# Altium schematic symbol library MCU_ST_STM32F3.SchLib: 126 symbols (part 1 of 3)
Pins are listed as number, name and electrical type; pins without a type are passive.

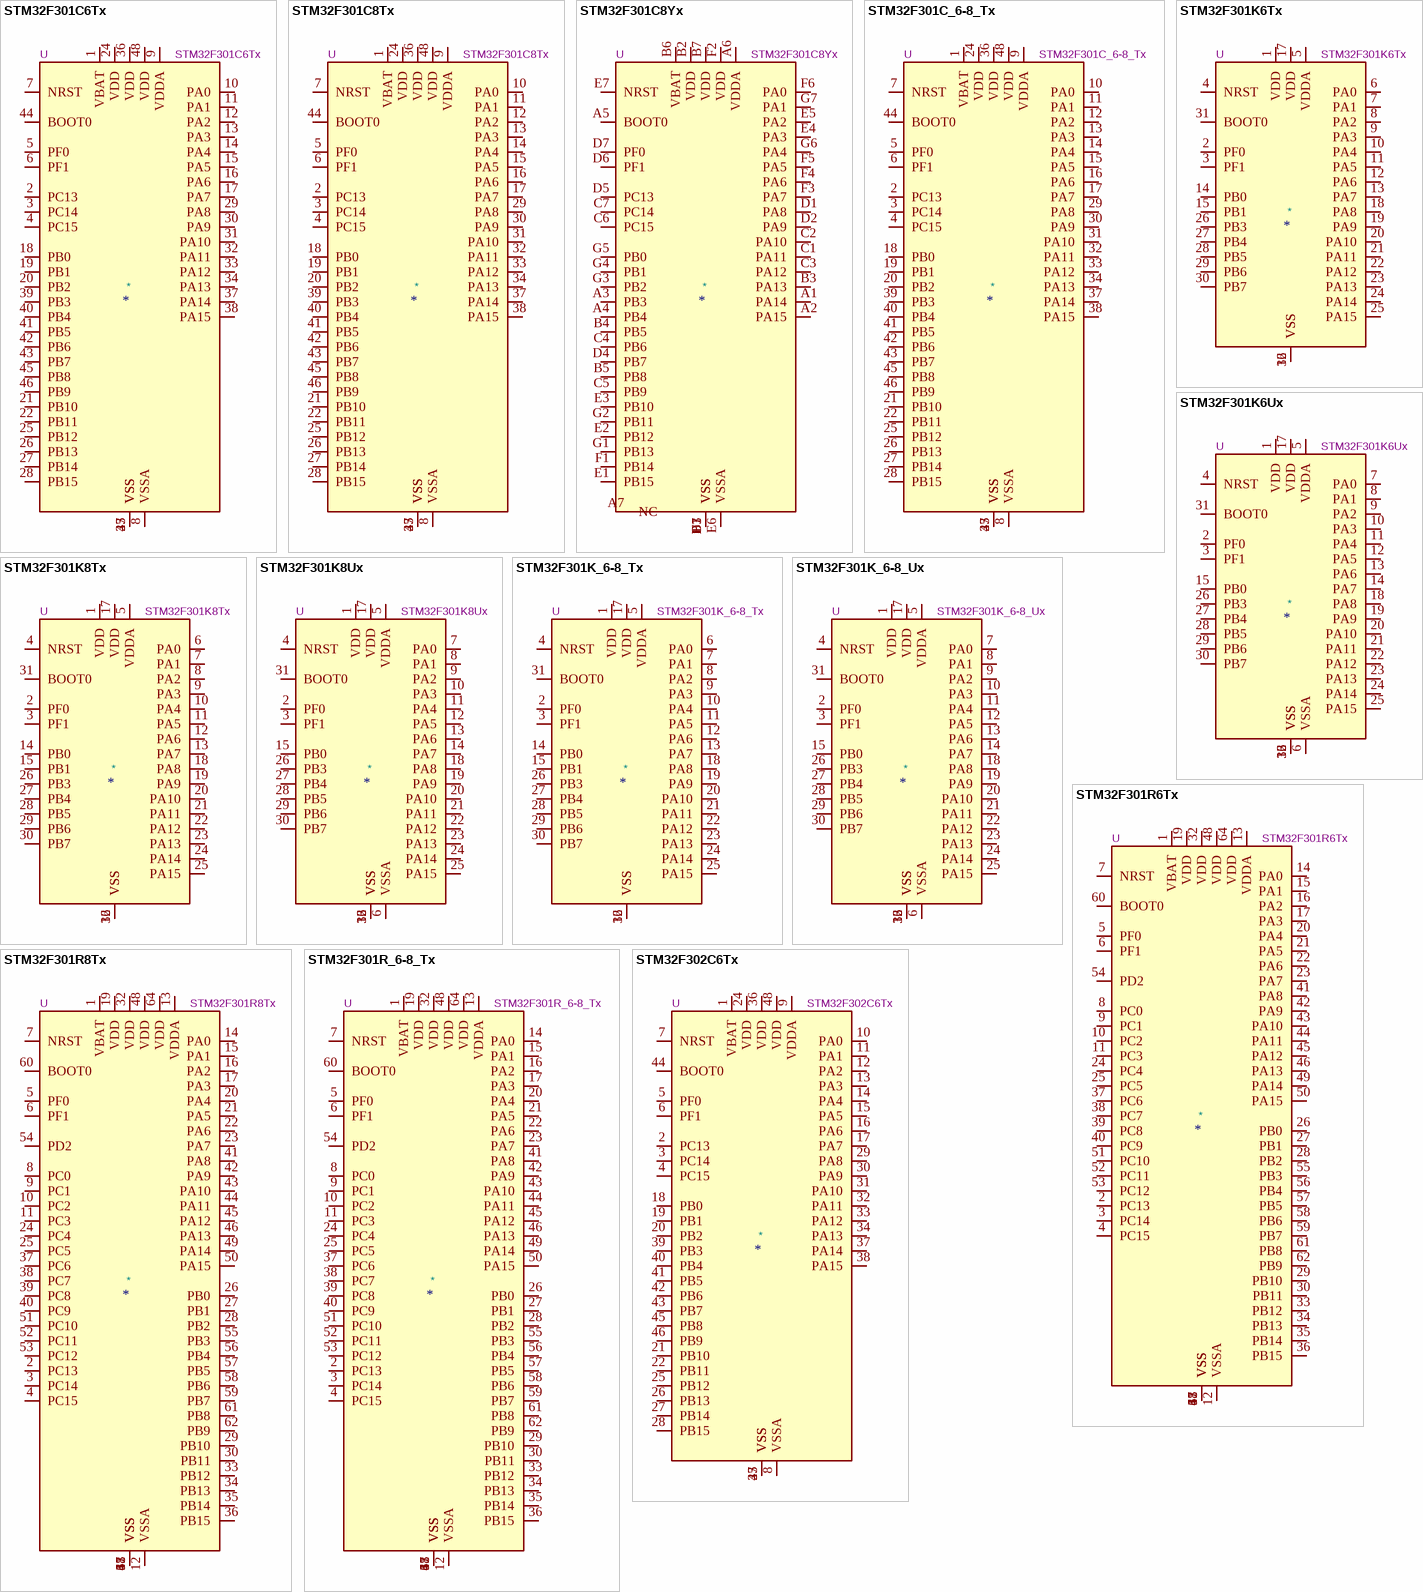
[diagram p0: symbols STM32F301C6Tx to STM32F302C6Tx]

## STM32F301C6Tx
designator *  value STM32F301C6Tx  Reference: U
STMicroelectronics Arm Cortex-M4 MCU, 32KB flash, 16KB RAM, 72 MHz, 2.0-3.6V, 37 GPIO, LQFP48; ki_keywords: Arm Cortex-M4 STM32F3 STM32F301; ki_fp_filters: LQFP*7x7mm*P0.5mm*; Footprint: Package_QFP:LQFP-48_7x7mm_P0.5mm; Datasheet: https://www.st.com/resource/en/datasheet/stm32f301c6.pdf; Description_: STMicroelectronics Arm Cortex-M4 MCU, 32KB flash, 16KB RAM, 72 MHz, 2.0-3.6V, 37 GPIO, LQFP48
pins: 1 VBAT, 2 PC13, 3 PC14, 4 PC15, 5 PF0, 6 PF1, 7 NRST, 8 VSSA, 9 VDDA, 10 PA0, 11 PA1, 12 PA2, 13 PA3, 14 PA4, 15 PA5, 16 PA6, 17 PA7, 18 PB0, 19 PB1, 20 PB2, 21 PB10, 22 PB11, 23 VSS, 24 VDD, 25 PB12, 26 PB13, 27 PB14, 28 PB15, 29 PA8, 30 PA9, 31 PA10, 32 PA11, 33 PA12, 34 PA13, 35 VSS, 36 VDD, 37 PA14, 38 PA15, 39 PB3, 40 PB4, 41 PB5, 42 PB6, 43 PB7, 44 BOOT0, 45 PB8, 46 PB9, 47 VSS, 48 VDD

## STM32F301C8Tx
designator *  value STM32F301C8Tx  Reference: U
STMicroelectronics Arm Cortex-M4 MCU, 64KB flash, 16KB RAM, 72 MHz, 2.0-3.6V, 37 GPIO, LQFP48; ki_keywords: Arm Cortex-M4 STM32F3 STM32F301; ki_fp_filters: LQFP*7x7mm*P0.5mm*; Footprint: Package_QFP:LQFP-48_7x7mm_P0.5mm; Datasheet: https://www.st.com/resource/en/datasheet/stm32f301c8.pdf; Description_: STMicroelectronics Arm Cortex-M4 MCU, 64KB flash, 16KB RAM, 72 MHz, 2.0-3.6V, 37 GPIO, LQFP48
pins: 1 VBAT, 2 PC13, 3 PC14, 4 PC15, 5 PF0, 6 PF1, 7 NRST, 8 VSSA, 9 VDDA, 10 PA0, 11 PA1, 12 PA2, 13 PA3, 14 PA4, 15 PA5, 16 PA6, 17 PA7, 18 PB0, 19 PB1, 20 PB2, 21 PB10, 22 PB11, 23 VSS, 24 VDD, 25 PB12, 26 PB13, 27 PB14, 28 PB15, 29 PA8, 30 PA9, 31 PA10, 32 PA11, 33 PA12, 34 PA13, 35 VSS, 36 VDD, 37 PA14, 38 PA15, 39 PB3, 40 PB4, 41 PB5, 42 PB6, 43 PB7, 44 BOOT0, 45 PB8, 46 PB9, 47 VSS, 48 VDD

## STM32F301C8Yx
designator *  value STM32F301C8Yx  Reference: U
STMicroelectronics Arm Cortex-M4 MCU, 64KB flash, 16KB RAM, 72 MHz, 2.0-3.6V, 37 GPIO, WLCSP49; ki_keywords: Arm Cortex-M4 STM32F3 STM32F301; ki_fp_filters: ST*WLCSP*Die439*; Footprint: Package_CSP:ST_WLCSP-49_Die439; Datasheet: https://www.st.com/resource/en/datasheet/stm32f301c8.pdf; Description_: STMicroelectronics Arm Cortex-M4 MCU, 64KB flash, 16KB RAM, 72 MHz, 2.0-3.6V, 37 GPIO, WLCSP49
pins: A1 PA14, A2 PA15, A3 PB3, A4 PB4, A5 BOOT0, A6 VDDA, A7 NC, B1 VSS, B2 VDD, B3 PA13, B4 PB5, B5 PB8, B6 VBAT, B7 VDD, C1 PA11, C2 PA10, C3 PA12, C4 PB6, C5 PB9, C6 PC15, C7 PC14, D1 PA8, D2 PA9, D3 VSS, D4 PB7, D5 PC13, D6 PF1, D7 PF0, E1 PB15, E2 PB12, E3 PB10, E4 PA3, E5 PA2, E6 VSSA, E7 NRST, F1 PB14, F2 VDD, F3 PA7, F4 PA6, F5 PA5, F6 PA0, F7 VSS, G1 PB13, G2 PB11, G3 PB2, G4 PB1, G5 PB0, G6 PA4, G7 PA1

## STM32F301C_6-8_Tx
designator *  value STM32F301C_6-8_Tx  Reference: U
STMicroelectronics Arm Cortex-M4 MCU, 32-64KB flash, 16KB RAM, 72 MHz, 2.0-3.6V, 37 GPIO, LQFP48; ki_keywords: Arm Cortex-M4 STM32F3 STM32F301; ki_fp_filters: LQFP*7x7mm*P0.5mm*; Footprint: Package_QFP:LQFP-48_7x7mm_P0.5mm; Datasheet: https://www.st.com/resource/en/datasheet/stm32f301c6.pdf; Description_: STMicroelectronics Arm Cortex-M4 MCU, 32-64KB flash, 16KB RAM, 72 MHz, 2.0-3.6V, 37 GPIO, LQFP48
pins: 1 VBAT, 2 PC13, 3 PC14, 4 PC15, 5 PF0, 6 PF1, 7 NRST, 8 VSSA, 9 VDDA, 10 PA0, 11 PA1, 12 PA2, 13 PA3, 14 PA4, 15 PA5, 16 PA6, 17 PA7, 18 PB0, 19 PB1, 20 PB2, 21 PB10, 22 PB11, 23 VSS, 24 VDD, 25 PB12, 26 PB13, 27 PB14, 28 PB15, 29 PA8, 30 PA9, 31 PA10, 32 PA11, 33 PA12, 34 PA13, 35 VSS, 36 VDD, 37 PA14, 38 PA15, 39 PB3, 40 PB4, 41 PB5, 42 PB6, 43 PB7, 44 BOOT0, 45 PB8, 46 PB9, 47 VSS, 48 VDD

## STM32F301K6Tx
designator *  value STM32F301K6Tx  Reference: U
STMicroelectronics Arm Cortex-M4 MCU, 32KB flash, 16KB RAM, 72 MHz, 2.0-3.6V, 25 GPIO, LQFP32; ki_keywords: Arm Cortex-M4 STM32F3 STM32F301; ki_fp_filters: LQFP*7x7mm*P0.8mm*; Footprint: Package_QFP:LQFP-32_7x7mm_P0.8mm; Datasheet: https://www.st.com/resource/en/datasheet/stm32f301k6.pdf; Description_: STMicroelectronics Arm Cortex-M4 MCU, 32KB flash, 16KB RAM, 72 MHz, 2.0-3.6V, 25 GPIO, LQFP32
pins: 1 VDD, 2 PF0, 3 PF1, 4 NRST, 5 VDDA, 6 PA0, 7 PA1, 8 PA2, 9 PA3, 10 PA4, 11 PA5, 12 PA6, 13 PA7, 14 PB0, 15 PB1, 16 VSS, 17 VDD, 18 PA8, 19 PA9, 20 PA10, 21 PA11, 22 PA12, 23 PA13, 24 PA14, 25 PA15, 26 PB3, 27 PB4, 28 PB5, 29 PB6, 30 PB7, 31 BOOT0, 32 VSS

## STM32F301K6Ux
designator *  value STM32F301K6Ux  Reference: U
STMicroelectronics Arm Cortex-M4 MCU, 32KB flash, 16KB RAM, 72 MHz, 2.0-3.6V, 24 GPIO, UFQFPN32; ki_keywords: Arm Cortex-M4 STM32F3 STM32F301; ki_fp_filters: QFN*1EP*5x5mm*P0.5mm*; Footprint: Package_DFN_QFN:QFN-32-1EP_5x5mm_P0.5mm_EP3.45x3.45mm; Datasheet: https://www.st.com/resource/en/datasheet/stm32f301k6.pdf; Description_: STMicroelectronics Arm Cortex-M4 MCU, 32KB flash, 16KB RAM, 72 MHz, 2.0-3.6V, 24 GPIO, UFQFPN32
pins: 1 VDD, 2 PF0, 3 PF1, 4 NRST, 5 VDDA, 6 VSSA, 7 PA0, 8 PA1, 9 PA2, 10 PA3, 11 PA4, 12 PA5, 13 PA6, 14 PA7, 15 PB0, 16 VSS, 17 VDD, 18 PA8, 19 PA9, 20 PA10, 21 PA11, 22 PA12, 23 PA13, 24 PA14, 25 PA15, 26 PB3, 27 PB4, 28 PB5, 29 PB6, 30 PB7, 31 BOOT0, 32 VSS, 33 VSS

## STM32F301K8Tx
designator *  value STM32F301K8Tx  Reference: U
STMicroelectronics Arm Cortex-M4 MCU, 64KB flash, 16KB RAM, 72 MHz, 2.0-3.6V, 25 GPIO, LQFP32; ki_keywords: Arm Cortex-M4 STM32F3 STM32F301; ki_fp_filters: LQFP*7x7mm*P0.8mm*; Footprint: Package_QFP:LQFP-32_7x7mm_P0.8mm; Datasheet: https://www.st.com/resource/en/datasheet/stm32f301k8.pdf; Description_: STMicroelectronics Arm Cortex-M4 MCU, 64KB flash, 16KB RAM, 72 MHz, 2.0-3.6V, 25 GPIO, LQFP32
pins: 1 VDD, 2 PF0, 3 PF1, 4 NRST, 5 VDDA, 6 PA0, 7 PA1, 8 PA2, 9 PA3, 10 PA4, 11 PA5, 12 PA6, 13 PA7, 14 PB0, 15 PB1, 16 VSS, 17 VDD, 18 PA8, 19 PA9, 20 PA10, 21 PA11, 22 PA12, 23 PA13, 24 PA14, 25 PA15, 26 PB3, 27 PB4, 28 PB5, 29 PB6, 30 PB7, 31 BOOT0, 32 VSS

## STM32F301K8Ux
designator *  value STM32F301K8Ux  Reference: U
STMicroelectronics Arm Cortex-M4 MCU, 64KB flash, 16KB RAM, 72 MHz, 2.0-3.6V, 24 GPIO, UFQFPN32; ki_keywords: Arm Cortex-M4 STM32F3 STM32F301; ki_fp_filters: QFN*1EP*5x5mm*P0.5mm*; Footprint: Package_DFN_QFN:QFN-32-1EP_5x5mm_P0.5mm_EP3.45x3.45mm; Datasheet: https://www.st.com/resource/en/datasheet/stm32f301k8.pdf; Description_: STMicroelectronics Arm Cortex-M4 MCU, 64KB flash, 16KB RAM, 72 MHz, 2.0-3.6V, 24 GPIO, UFQFPN32
pins: 1 VDD, 2 PF0, 3 PF1, 4 NRST, 5 VDDA, 6 VSSA, 7 PA0, 8 PA1, 9 PA2, 10 PA3, 11 PA4, 12 PA5, 13 PA6, 14 PA7, 15 PB0, 16 VSS, 17 VDD, 18 PA8, 19 PA9, 20 PA10, 21 PA11, 22 PA12, 23 PA13, 24 PA14, 25 PA15, 26 PB3, 27 PB4, 28 PB5, 29 PB6, 30 PB7, 31 BOOT0, 32 VSS, 33 VSS

## STM32F301K_6-8_Tx
designator *  value STM32F301K_6-8_Tx  Reference: U
STMicroelectronics Arm Cortex-M4 MCU, 32-64KB flash, 16KB RAM, 72 MHz, 2.0-3.6V, 25 GPIO, LQFP32; ki_keywords: Arm Cortex-M4 STM32F3 STM32F301; ki_fp_filters: LQFP*7x7mm*P0.8mm*; Footprint: Package_QFP:LQFP-32_7x7mm_P0.8mm; Datasheet: https://www.st.com/resource/en/datasheet/stm32f301k6.pdf; Description_: STMicroelectronics Arm Cortex-M4 MCU, 32-64KB flash, 16KB RAM, 72 MHz, 2.0-3.6V, 25 GPIO, LQFP32
pins: 1 VDD, 2 PF0, 3 PF1, 4 NRST, 5 VDDA, 6 PA0, 7 PA1, 8 PA2, 9 PA3, 10 PA4, 11 PA5, 12 PA6, 13 PA7, 14 PB0, 15 PB1, 16 VSS, 17 VDD, 18 PA8, 19 PA9, 20 PA10, 21 PA11, 22 PA12, 23 PA13, 24 PA14, 25 PA15, 26 PB3, 27 PB4, 28 PB5, 29 PB6, 30 PB7, 31 BOOT0, 32 VSS

## STM32F301K_6-8_Ux
designator *  value STM32F301K_6-8_Ux  Reference: U
STMicroelectronics Arm Cortex-M4 MCU, 32-64KB flash, 16KB RAM, 72 MHz, 2.0-3.6V, 24 GPIO, UFQFPN32; ki_keywords: Arm Cortex-M4 STM32F3 STM32F301; ki_fp_filters: QFN*1EP*5x5mm*P0.5mm*; Footprint: Package_DFN_QFN:QFN-32-1EP_5x5mm_P0.5mm_EP3.45x3.45mm; Datasheet: https://www.st.com/resource/en/datasheet/stm32f301k6.pdf; Description_: STMicroelectronics Arm Cortex-M4 MCU, 32-64KB flash, 16KB RAM, 72 MHz, 2.0-3.6V, 24 GPIO, UFQFPN32
pins: 1 VDD, 2 PF0, 3 PF1, 4 NRST, 5 VDDA, 6 VSSA, 7 PA0, 8 PA1, 9 PA2, 10 PA3, 11 PA4, 12 PA5, 13 PA6, 14 PA7, 15 PB0, 16 VSS, 17 VDD, 18 PA8, 19 PA9, 20 PA10, 21 PA11, 22 PA12, 23 PA13, 24 PA14, 25 PA15, 26 PB3, 27 PB4, 28 PB5, 29 PB6, 30 PB7, 31 BOOT0, 32 VSS, 33 VSS

## STM32F301R6Tx
designator *  value STM32F301R6Tx  Reference: U
STMicroelectronics Arm Cortex-M4 MCU, 32KB flash, 16KB RAM, 72 MHz, 2.0-3.6V, 51 GPIO, LQFP64; ki_keywords: Arm Cortex-M4 STM32F3 STM32F301; ki_fp_filters: LQFP*10x10mm*P0.5mm*; Footprint: Package_QFP:LQFP-64_10x10mm_P0.5mm; Datasheet: https://www.st.com/resource/en/datasheet/stm32f301r6.pdf; Description_: STMicroelectronics Arm Cortex-M4 MCU, 32KB flash, 16KB RAM, 72 MHz, 2.0-3.6V, 51 GPIO, LQFP64
pins: 1 VBAT, 2 PC13, 3 PC14, 4 PC15, 5 PF0, 6 PF1, 7 NRST, 8 PC0, 9 PC1, 10 PC2, 11 PC3, 12 VSSA, 13 VDDA, 14 PA0, 15 PA1, 16 PA2, 17 PA3, 18 VSS, 19 VDD, 20 PA4, 21 PA5, 22 PA6, 23 PA7, 24 PC4, 25 PC5, 26 PB0, 27 PB1, 28 PB2, 29 PB10, 30 PB11, 31 VSS, 32 VDD, 33 PB12, 34 PB13, 35 PB14, 36 PB15, 37 PC6, 38 PC7, 39 PC8, 40 PC9, 41 PA8, 42 PA9, 43 PA10, 44 PA11, 45 PA12, 46 PA13, 47 VSS, 48 VDD, 49 PA14, 50 PA15, 51 PC10, 52 PC11, 53 PC12, 54 PD2, 55 PB3, 56 PB4, 57 PB5, 58 PB6, 59 PB7, 60 BOOT0, 61 PB8, 62 PB9, 63 VSS, 64 VDD

## STM32F301R8Tx
designator *  value STM32F301R8Tx  Reference: U
STMicroelectronics Arm Cortex-M4 MCU, 64KB flash, 16KB RAM, 72 MHz, 2.0-3.6V, 51 GPIO, LQFP64; ki_keywords: Arm Cortex-M4 STM32F3 STM32F301; ki_fp_filters: LQFP*10x10mm*P0.5mm*; Footprint: Package_QFP:LQFP-64_10x10mm_P0.5mm; Datasheet: https://www.st.com/resource/en/datasheet/stm32f301r8.pdf; Description_: STMicroelectronics Arm Cortex-M4 MCU, 64KB flash, 16KB RAM, 72 MHz, 2.0-3.6V, 51 GPIO, LQFP64
pins: 1 VBAT, 2 PC13, 3 PC14, 4 PC15, 5 PF0, 6 PF1, 7 NRST, 8 PC0, 9 PC1, 10 PC2, 11 PC3, 12 VSSA, 13 VDDA, 14 PA0, 15 PA1, 16 PA2, 17 PA3, 18 VSS, 19 VDD, 20 PA4, 21 PA5, 22 PA6, 23 PA7, 24 PC4, 25 PC5, 26 PB0, 27 PB1, 28 PB2, 29 PB10, 30 PB11, 31 VSS, 32 VDD, 33 PB12, 34 PB13, 35 PB14, 36 PB15, 37 PC6, 38 PC7, 39 PC8, 40 PC9, 41 PA8, 42 PA9, 43 PA10, 44 PA11, 45 PA12, 46 PA13, 47 VSS, 48 VDD, 49 PA14, 50 PA15, 51 PC10, 52 PC11, 53 PC12, 54 PD2, 55 PB3, 56 PB4, 57 PB5, 58 PB6, 59 PB7, 60 BOOT0, 61 PB8, 62 PB9, 63 VSS, 64 VDD

## STM32F301R_6-8_Tx
designator *  value STM32F301R_6-8_Tx  Reference: U
STMicroelectronics Arm Cortex-M4 MCU, 32-64KB flash, 16KB RAM, 72 MHz, 2.0-3.6V, 51 GPIO, LQFP64; ki_keywords: Arm Cortex-M4 STM32F3 STM32F301; ki_fp_filters: LQFP*10x10mm*P0.5mm*; Footprint: Package_QFP:LQFP-64_10x10mm_P0.5mm; Datasheet: https://www.st.com/resource/en/datasheet/stm32f301r6.pdf; Description_: STMicroelectronics Arm Cortex-M4 MCU, 32-64KB flash, 16KB RAM, 72 MHz, 2.0-3.6V, 51 GPIO, LQFP64
pins: 1 VBAT, 2 PC13, 3 PC14, 4 PC15, 5 PF0, 6 PF1, 7 NRST, 8 PC0, 9 PC1, 10 PC2, 11 PC3, 12 VSSA, 13 VDDA, 14 PA0, 15 PA1, 16 PA2, 17 PA3, 18 VSS, 19 VDD, 20 PA4, 21 PA5, 22 PA6, 23 PA7, 24 PC4, 25 PC5, 26 PB0, 27 PB1, 28 PB2, 29 PB10, 30 PB11, 31 VSS, 32 VDD, 33 PB12, 34 PB13, 35 PB14, 36 PB15, 37 PC6, 38 PC7, 39 PC8, 40 PC9, 41 PA8, 42 PA9, 43 PA10, 44 PA11, 45 PA12, 46 PA13, 47 VSS, 48 VDD, 49 PA14, 50 PA15, 51 PC10, 52 PC11, 53 PC12, 54 PD2, 55 PB3, 56 PB4, 57 PB5, 58 PB6, 59 PB7, 60 BOOT0, 61 PB8, 62 PB9, 63 VSS, 64 VDD

## STM32F302C6Tx
designator *  value STM32F302C6Tx  Reference: U
STMicroelectronics Arm Cortex-M4 MCU, 32KB flash, 16KB RAM, 72 MHz, 2.0-3.6V, 37 GPIO, LQFP48; ki_keywords: Arm Cortex-M4 STM32F3 STM32F302; ki_fp_filters: LQFP*7x7mm*P0.5mm*; Footprint: Package_QFP:LQFP-48_7x7mm_P0.5mm; Datasheet: https://www.st.com/resource/en/datasheet/stm32f302c6.pdf; Description_: STMicroelectronics Arm Cortex-M4 MCU, 32KB flash, 16KB RAM, 72 MHz, 2.0-3.6V, 37 GPIO, LQFP48
pins: 1 VBAT, 2 PC13, 3 PC14, 4 PC15, 5 PF0, 6 PF1, 7 NRST, 8 VSSA, 9 VDDA, 10 PA0, 11 PA1, 12 PA2, 13 PA3, 14 PA4, 15 PA5, 16 PA6, 17 PA7, 18 PB0, 19 PB1, 20 PB2, 21 PB10, 22 PB11, 23 VSS, 24 VDD, 25 PB12, 26 PB13, 27 PB14, 28 PB15, 29 PA8, 30 PA9, 31 PA10, 32 PA11, 33 PA12, 34 PA13, 35 VSS, 36 VDD, 37 PA14, 38 PA15, 39 PB3, 40 PB4, 41 PB5, 42 PB6, 43 PB7, 44 BOOT0, 45 PB8, 46 PB9, 47 VSS, 48 VDD

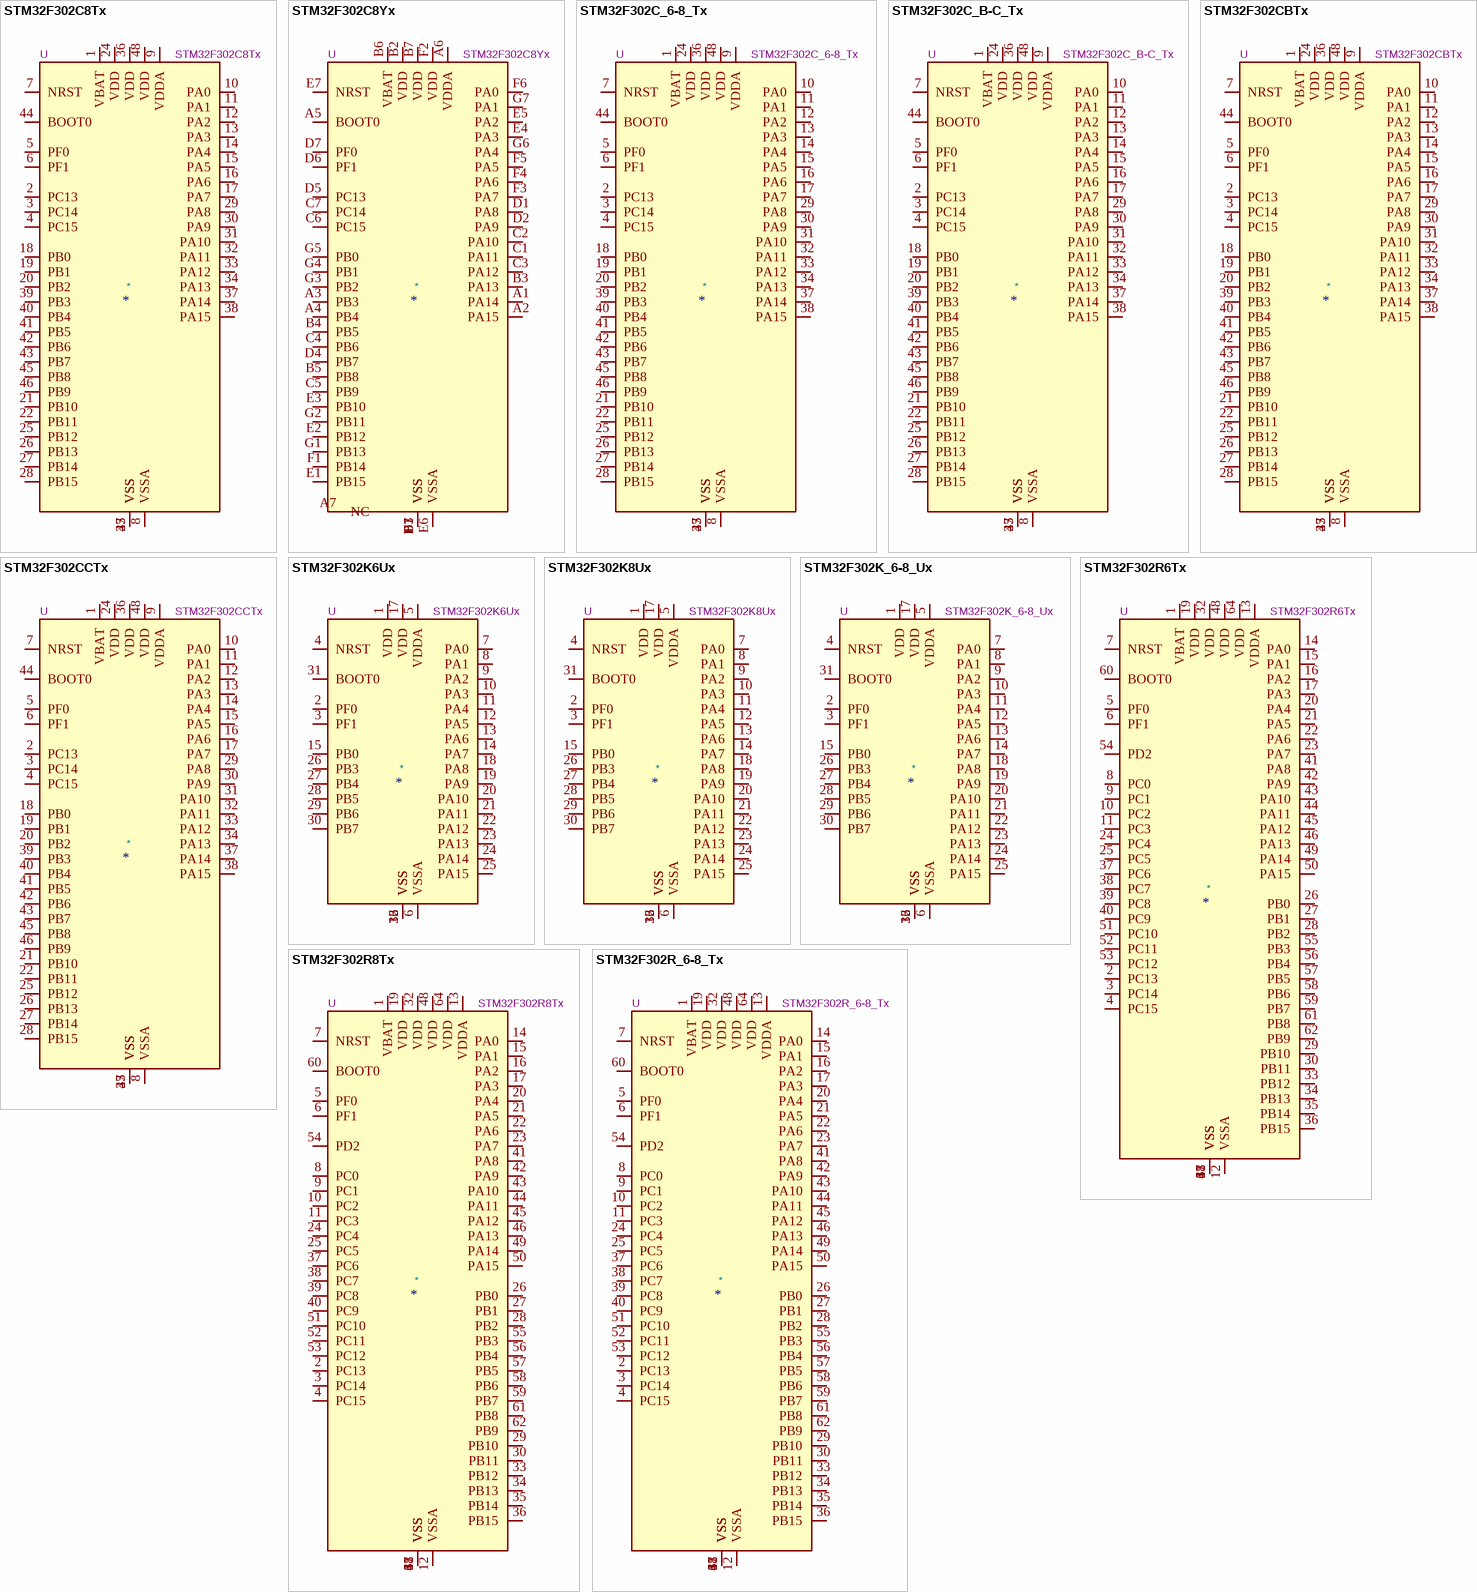
[diagram p1: symbols STM32F302C8Tx to STM32F302R_6-8_Tx]

## STM32F302C8Tx
designator *  value STM32F302C8Tx  Reference: U
STMicroelectronics Arm Cortex-M4 MCU, 64KB flash, 16KB RAM, 72 MHz, 2.0-3.6V, 37 GPIO, LQFP48; ki_keywords: Arm Cortex-M4 STM32F3 STM32F302; ki_fp_filters: LQFP*7x7mm*P0.5mm*; Footprint: Package_QFP:LQFP-48_7x7mm_P0.5mm; Datasheet: https://www.st.com/resource/en/datasheet/stm32f302c8.pdf; Description_: STMicroelectronics Arm Cortex-M4 MCU, 64KB flash, 16KB RAM, 72 MHz, 2.0-3.6V, 37 GPIO, LQFP48
pins: 1 VBAT, 2 PC13, 3 PC14, 4 PC15, 5 PF0, 6 PF1, 7 NRST, 8 VSSA, 9 VDDA, 10 PA0, 11 PA1, 12 PA2, 13 PA3, 14 PA4, 15 PA5, 16 PA6, 17 PA7, 18 PB0, 19 PB1, 20 PB2, 21 PB10, 22 PB11, 23 VSS, 24 VDD, 25 PB12, 26 PB13, 27 PB14, 28 PB15, 29 PA8, 30 PA9, 31 PA10, 32 PA11, 33 PA12, 34 PA13, 35 VSS, 36 VDD, 37 PA14, 38 PA15, 39 PB3, 40 PB4, 41 PB5, 42 PB6, 43 PB7, 44 BOOT0, 45 PB8, 46 PB9, 47 VSS, 48 VDD

## STM32F302C8Yx
designator *  value STM32F302C8Yx  Reference: U
STMicroelectronics Arm Cortex-M4 MCU, 64KB flash, 16KB RAM, 72 MHz, 2.0-3.6V, 37 GPIO, WLCSP49; ki_keywords: Arm Cortex-M4 STM32F3 STM32F302; ki_fp_filters: ST*WLCSP*Die439*; Footprint: Package_CSP:ST_WLCSP-49_Die439; Datasheet: https://www.st.com/resource/en/datasheet/stm32f302c8.pdf; Description_: STMicroelectronics Arm Cortex-M4 MCU, 64KB flash, 16KB RAM, 72 MHz, 2.0-3.6V, 37 GPIO, WLCSP49
pins: A1 PA14, A2 PA15, A3 PB3, A4 PB4, A5 BOOT0, A6 VDDA, A7 NC, B1 VSS, B2 VDD, B3 PA13, B4 PB5, B5 PB8, B6 VBAT, B7 VDD, C1 PA11, C2 PA10, C3 PA12, C4 PB6, C5 PB9, C6 PC15, C7 PC14, D1 PA8, D2 PA9, D3 VSS, D4 PB7, D5 PC13, D6 PF1, D7 PF0, E1 PB15, E2 PB12, E3 PB10, E4 PA3, E5 PA2, E6 VSSA, E7 NRST, F1 PB14, F2 VDD, F3 PA7, F4 PA6, F5 PA5, F6 PA0, F7 VSS, G1 PB13, G2 PB11, G3 PB2, G4 PB1, G5 PB0, G6 PA4, G7 PA1

## STM32F302C_6-8_Tx
designator *  value STM32F302C_6-8_Tx  Reference: U
STMicroelectronics Arm Cortex-M4 MCU, 32-64KB flash, 16KB RAM, 72 MHz, 2.0-3.6V, 37 GPIO, LQFP48; ki_keywords: Arm Cortex-M4 STM32F3 STM32F302; ki_fp_filters: LQFP*7x7mm*P0.5mm*; Footprint: Package_QFP:LQFP-48_7x7mm_P0.5mm; Datasheet: https://www.st.com/resource/en/datasheet/stm32f302c6.pdf; Description_: STMicroelectronics Arm Cortex-M4 MCU, 32-64KB flash, 16KB RAM, 72 MHz, 2.0-3.6V, 37 GPIO, LQFP48
pins: 1 VBAT, 2 PC13, 3 PC14, 4 PC15, 5 PF0, 6 PF1, 7 NRST, 8 VSSA, 9 VDDA, 10 PA0, 11 PA1, 12 PA2, 13 PA3, 14 PA4, 15 PA5, 16 PA6, 17 PA7, 18 PB0, 19 PB1, 20 PB2, 21 PB10, 22 PB11, 23 VSS, 24 VDD, 25 PB12, 26 PB13, 27 PB14, 28 PB15, 29 PA8, 30 PA9, 31 PA10, 32 PA11, 33 PA12, 34 PA13, 35 VSS, 36 VDD, 37 PA14, 38 PA15, 39 PB3, 40 PB4, 41 PB5, 42 PB6, 43 PB7, 44 BOOT0, 45 PB8, 46 PB9, 47 VSS, 48 VDD

## STM32F302C_B-C_Tx
designator *  value STM32F302C_B-C_Tx  Reference: U
STMicroelectronics Arm Cortex-M4 MCU, 128-256KB flash, 32-40KB RAM, 72 MHz, 2.0-3.6V, 37 GPIO, LQFP48; ki_keywords: Arm Cortex-M4 STM32F3 STM32F302; ki_fp_filters: LQFP*7x7mm*P0.5mm*; Footprint: Package_QFP:LQFP-48_7x7mm_P0.5mm; Datasheet: https://www.st.com/resource/en/datasheet/stm32f302cb.pdf; Description_: STMicroelectronics Arm Cortex-M4 MCU, 128-256KB flash, 32-40KB RAM, 72 MHz, 2.0-3.6V, 37 GPIO, LQFP48
pins: 1 VBAT, 2 PC13, 3 PC14, 4 PC15, 5 PF0, 6 PF1, 7 NRST, 8 VSSA, 9 VDDA, 10 PA0, 11 PA1, 12 PA2, 13 PA3, 14 PA4, 15 PA5, 16 PA6, 17 PA7, 18 PB0, 19 PB1, 20 PB2, 21 PB10, 22 PB11, 23 VSS, 24 VDD, 25 PB12, 26 PB13, 27 PB14, 28 PB15, 29 PA8, 30 PA9, 31 PA10, 32 PA11, 33 PA12, 34 PA13, 35 VSS, 36 VDD, 37 PA14, 38 PA15, 39 PB3, 40 PB4, 41 PB5, 42 PB6, 43 PB7, 44 BOOT0, 45 PB8, 46 PB9, 47 VSS, 48 VDD

## STM32F302CBTx
designator *  value STM32F302CBTx  Reference: U
STMicroelectronics Arm Cortex-M4 MCU, 128KB flash, 32KB RAM, 72 MHz, 2.0-3.6V, 37 GPIO, LQFP48; ki_keywords: Arm Cortex-M4 STM32F3 STM32F302; ki_fp_filters: LQFP*7x7mm*P0.5mm*; Footprint: Package_QFP:LQFP-48_7x7mm_P0.5mm; Datasheet: https://www.st.com/resource/en/datasheet/stm32f302cb.pdf; Description_: STMicroelectronics Arm Cortex-M4 MCU, 128KB flash, 32KB RAM, 72 MHz, 2.0-3.6V, 37 GPIO, LQFP48
pins: 1 VBAT, 2 PC13, 3 PC14, 4 PC15, 5 PF0, 6 PF1, 7 NRST, 8 VSSA, 9 VDDA, 10 PA0, 11 PA1, 12 PA2, 13 PA3, 14 PA4, 15 PA5, 16 PA6, 17 PA7, 18 PB0, 19 PB1, 20 PB2, 21 PB10, 22 PB11, 23 VSS, 24 VDD, 25 PB12, 26 PB13, 27 PB14, 28 PB15, 29 PA8, 30 PA9, 31 PA10, 32 PA11, 33 PA12, 34 PA13, 35 VSS, 36 VDD, 37 PA14, 38 PA15, 39 PB3, 40 PB4, 41 PB5, 42 PB6, 43 PB7, 44 BOOT0, 45 PB8, 46 PB9, 47 VSS, 48 VDD

## STM32F302CCTx
designator *  value STM32F302CCTx  Reference: U
STMicroelectronics Arm Cortex-M4 MCU, 256KB flash, 40KB RAM, 72 MHz, 2.0-3.6V, 37 GPIO, LQFP48; ki_keywords: Arm Cortex-M4 STM32F3 STM32F302; ki_fp_filters: LQFP*7x7mm*P0.5mm*; Footprint: Package_QFP:LQFP-48_7x7mm_P0.5mm; Datasheet: https://www.st.com/resource/en/datasheet/stm32f302cc.pdf; Description_: STMicroelectronics Arm Cortex-M4 MCU, 256KB flash, 40KB RAM, 72 MHz, 2.0-3.6V, 37 GPIO, LQFP48
pins: 1 VBAT, 2 PC13, 3 PC14, 4 PC15, 5 PF0, 6 PF1, 7 NRST, 8 VSSA, 9 VDDA, 10 PA0, 11 PA1, 12 PA2, 13 PA3, 14 PA4, 15 PA5, 16 PA6, 17 PA7, 18 PB0, 19 PB1, 20 PB2, 21 PB10, 22 PB11, 23 VSS, 24 VDD, 25 PB12, 26 PB13, 27 PB14, 28 PB15, 29 PA8, 30 PA9, 31 PA10, 32 PA11, 33 PA12, 34 PA13, 35 VSS, 36 VDD, 37 PA14, 38 PA15, 39 PB3, 40 PB4, 41 PB5, 42 PB6, 43 PB7, 44 BOOT0, 45 PB8, 46 PB9, 47 VSS, 48 VDD

## STM32F302K6Ux
designator *  value STM32F302K6Ux  Reference: U
STMicroelectronics Arm Cortex-M4 MCU, 32KB flash, 16KB RAM, 72 MHz, 2.0-3.6V, 24 GPIO, UFQFPN32; ki_keywords: Arm Cortex-M4 STM32F3 STM32F302; ki_fp_filters: QFN*1EP*5x5mm*P0.5mm*; Footprint: Package_DFN_QFN:QFN-32-1EP_5x5mm_P0.5mm_EP3.45x3.45mm; Datasheet: https://www.st.com/resource/en/datasheet/stm32f302k6.pdf; Description_: STMicroelectronics Arm Cortex-M4 MCU, 32KB flash, 16KB RAM, 72 MHz, 2.0-3.6V, 24 GPIO, UFQFPN32
pins: 1 VDD, 2 PF0, 3 PF1, 4 NRST, 5 VDDA, 6 VSSA, 7 PA0, 8 PA1, 9 PA2, 10 PA3, 11 PA4, 12 PA5, 13 PA6, 14 PA7, 15 PB0, 16 VSS, 17 VDD, 18 PA8, 19 PA9, 20 PA10, 21 PA11, 22 PA12, 23 PA13, 24 PA14, 25 PA15, 26 PB3, 27 PB4, 28 PB5, 29 PB6, 30 PB7, 31 BOOT0, 32 VSS, 33 VSS

## STM32F302K8Ux
designator *  value STM32F302K8Ux  Reference: U
STMicroelectronics Arm Cortex-M4 MCU, 64KB flash, 16KB RAM, 72 MHz, 2.0-3.6V, 24 GPIO, UFQFPN32; ki_keywords: Arm Cortex-M4 STM32F3 STM32F302; ki_fp_filters: QFN*1EP*5x5mm*P0.5mm*; Footprint: Package_DFN_QFN:QFN-32-1EP_5x5mm_P0.5mm_EP3.45x3.45mm; Datasheet: https://www.st.com/resource/en/datasheet/stm32f302k8.pdf; Description_: STMicroelectronics Arm Cortex-M4 MCU, 64KB flash, 16KB RAM, 72 MHz, 2.0-3.6V, 24 GPIO, UFQFPN32
pins: 1 VDD, 2 PF0, 3 PF1, 4 NRST, 5 VDDA, 6 VSSA, 7 PA0, 8 PA1, 9 PA2, 10 PA3, 11 PA4, 12 PA5, 13 PA6, 14 PA7, 15 PB0, 16 VSS, 17 VDD, 18 PA8, 19 PA9, 20 PA10, 21 PA11, 22 PA12, 23 PA13, 24 PA14, 25 PA15, 26 PB3, 27 PB4, 28 PB5, 29 PB6, 30 PB7, 31 BOOT0, 32 VSS, 33 VSS

## STM32F302K_6-8_Ux
designator *  value STM32F302K_6-8_Ux  Reference: U
STMicroelectronics Arm Cortex-M4 MCU, 32-64KB flash, 16KB RAM, 72 MHz, 2.0-3.6V, 24 GPIO, UFQFPN32; ki_keywords: Arm Cortex-M4 STM32F3 STM32F302; ki_fp_filters: QFN*1EP*5x5mm*P0.5mm*; Footprint: Package_DFN_QFN:QFN-32-1EP_5x5mm_P0.5mm_EP3.45x3.45mm; Datasheet: https://www.st.com/resource/en/datasheet/stm32f302k6.pdf; Description_: STMicroelectronics Arm Cortex-M4 MCU, 32-64KB flash, 16KB RAM, 72 MHz, 2.0-3.6V, 24 GPIO, UFQFPN32
pins: 1 VDD, 2 PF0, 3 PF1, 4 NRST, 5 VDDA, 6 VSSA, 7 PA0, 8 PA1, 9 PA2, 10 PA3, 11 PA4, 12 PA5, 13 PA6, 14 PA7, 15 PB0, 16 VSS, 17 VDD, 18 PA8, 19 PA9, 20 PA10, 21 PA11, 22 PA12, 23 PA13, 24 PA14, 25 PA15, 26 PB3, 27 PB4, 28 PB5, 29 PB6, 30 PB7, 31 BOOT0, 32 VSS, 33 VSS

## STM32F302R6Tx
designator *  value STM32F302R6Tx  Reference: U
STMicroelectronics Arm Cortex-M4 MCU, 32KB flash, 16KB RAM, 72 MHz, 2.0-3.6V, 51 GPIO, LQFP64; ki_keywords: Arm Cortex-M4 STM32F3 STM32F302; ki_fp_filters: LQFP*10x10mm*P0.5mm*; Footprint: Package_QFP:LQFP-64_10x10mm_P0.5mm; Datasheet: https://www.st.com/resource/en/datasheet/stm32f302r6.pdf; Description_: STMicroelectronics Arm Cortex-M4 MCU, 32KB flash, 16KB RAM, 72 MHz, 2.0-3.6V, 51 GPIO, LQFP64
pins: 1 VBAT, 2 PC13, 3 PC14, 4 PC15, 5 PF0, 6 PF1, 7 NRST, 8 PC0, 9 PC1, 10 PC2, 11 PC3, 12 VSSA, 13 VDDA, 14 PA0, 15 PA1, 16 PA2, 17 PA3, 18 VSS, 19 VDD, 20 PA4, 21 PA5, 22 PA6, 23 PA7, 24 PC4, 25 PC5, 26 PB0, 27 PB1, 28 PB2, 29 PB10, 30 PB11, 31 VSS, 32 VDD, 33 PB12, 34 PB13, 35 PB14, 36 PB15, 37 PC6, 38 PC7, 39 PC8, 40 PC9, 41 PA8, 42 PA9, 43 PA10, 44 PA11, 45 PA12, 46 PA13, 47 VSS, 48 VDD, 49 PA14, 50 PA15, 51 PC10, 52 PC11, 53 PC12, 54 PD2, 55 PB3, 56 PB4, 57 PB5, 58 PB6, 59 PB7, 60 BOOT0, 61 PB8, 62 PB9, 63 VSS, 64 VDD

## STM32F302R8Tx
designator *  value STM32F302R8Tx  Reference: U
STMicroelectronics Arm Cortex-M4 MCU, 64KB flash, 16KB RAM, 72 MHz, 2.0-3.6V, 51 GPIO, LQFP64; ki_keywords: Arm Cortex-M4 STM32F3 STM32F302; ki_fp_filters: LQFP*10x10mm*P0.5mm*; Footprint: Package_QFP:LQFP-64_10x10mm_P0.5mm; Datasheet: https://www.st.com/resource/en/datasheet/stm32f302r8.pdf; Description_: STMicroelectronics Arm Cortex-M4 MCU, 64KB flash, 16KB RAM, 72 MHz, 2.0-3.6V, 51 GPIO, LQFP64
pins: 1 VBAT, 2 PC13, 3 PC14, 4 PC15, 5 PF0, 6 PF1, 7 NRST, 8 PC0, 9 PC1, 10 PC2, 11 PC3, 12 VSSA, 13 VDDA, 14 PA0, 15 PA1, 16 PA2, 17 PA3, 18 VSS, 19 VDD, 20 PA4, 21 PA5, 22 PA6, 23 PA7, 24 PC4, 25 PC5, 26 PB0, 27 PB1, 28 PB2, 29 PB10, 30 PB11, 31 VSS, 32 VDD, 33 PB12, 34 PB13, 35 PB14, 36 PB15, 37 PC6, 38 PC7, 39 PC8, 40 PC9, 41 PA8, 42 PA9, 43 PA10, 44 PA11, 45 PA12, 46 PA13, 47 VSS, 48 VDD, 49 PA14, 50 PA15, 51 PC10, 52 PC11, 53 PC12, 54 PD2, 55 PB3, 56 PB4, 57 PB5, 58 PB6, 59 PB7, 60 BOOT0, 61 PB8, 62 PB9, 63 VSS, 64 VDD

## STM32F302R_6-8_Tx
designator *  value STM32F302R_6-8_Tx  Reference: U
STMicroelectronics Arm Cortex-M4 MCU, 32-64KB flash, 16KB RAM, 72 MHz, 2.0-3.6V, 51 GPIO, LQFP64; ki_keywords: Arm Cortex-M4 STM32F3 STM32F302; ki_fp_filters: LQFP*10x10mm*P0.5mm*; Footprint: Package_QFP:LQFP-64_10x10mm_P0.5mm; Datasheet: https://www.st.com/resource/en/datasheet/stm32f302r6.pdf; Description_: STMicroelectronics Arm Cortex-M4 MCU, 32-64KB flash, 16KB RAM, 72 MHz, 2.0-3.6V, 51 GPIO, LQFP64
pins: 1 VBAT, 2 PC13, 3 PC14, 4 PC15, 5 PF0, 6 PF1, 7 NRST, 8 PC0, 9 PC1, 10 PC2, 11 PC3, 12 VSSA, 13 VDDA, 14 PA0, 15 PA1, 16 PA2, 17 PA3, 18 VSS, 19 VDD, 20 PA4, 21 PA5, 22 PA6, 23 PA7, 24 PC4, 25 PC5, 26 PB0, 27 PB1, 28 PB2, 29 PB10, 30 PB11, 31 VSS, 32 VDD, 33 PB12, 34 PB13, 35 PB14, 36 PB15, 37 PC6, 38 PC7, 39 PC8, 40 PC9, 41 PA8, 42 PA9, 43 PA10, 44 PA11, 45 PA12, 46 PA13, 47 VSS, 48 VDD, 49 PA14, 50 PA15, 51 PC10, 52 PC11, 53 PC12, 54 PD2, 55 PB3, 56 PB4, 57 PB5, 58 PB6, 59 PB7, 60 BOOT0, 61 PB8, 62 PB9, 63 VSS, 64 VDD

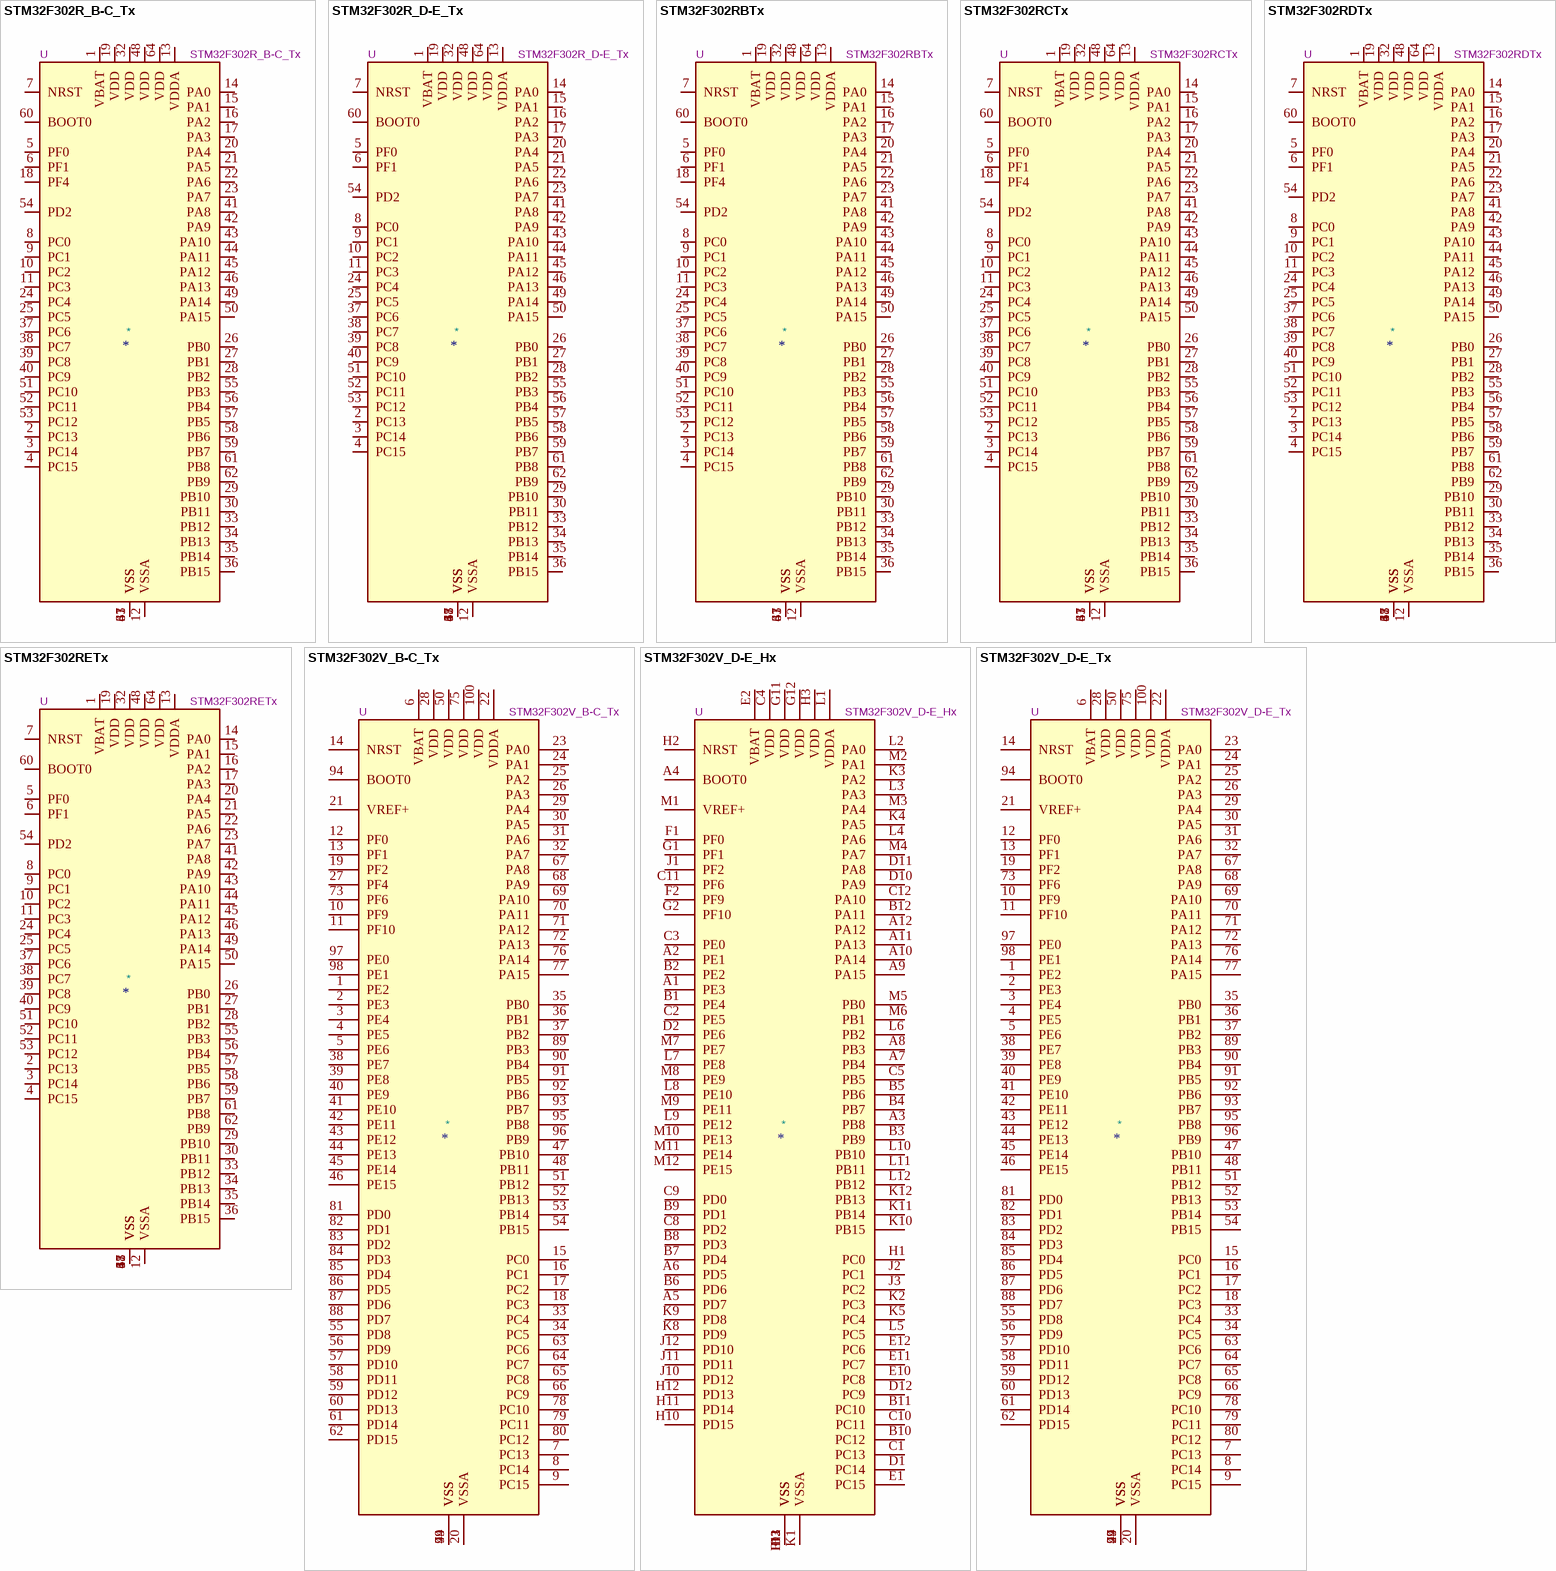
[diagram p2: symbols STM32F302R_B-C_Tx to STM32F302V_D-E_Tx]

## STM32F302R_B-C_Tx
designator *  value STM32F302R_B-C_Tx  Reference: U
STMicroelectronics Arm Cortex-M4 MCU, 128-256KB flash, 32-40KB RAM, 72 MHz, 2.0-3.6V, 52 GPIO, LQFP64; ki_keywords: Arm Cortex-M4 STM32F3 STM32F302; ki_fp_filters: LQFP*10x10mm*P0.5mm*; Footprint: Package_QFP:LQFP-64_10x10mm_P0.5mm; Datasheet: https://www.st.com/resource/en/datasheet/stm32f302rb.pdf; Description_: STMicroelectronics Arm Cortex-M4 MCU, 128-256KB flash, 32-40KB RAM, 72 MHz, 2.0-3.6V, 52 GPIO, LQFP64
pins: 1 VBAT, 2 PC13, 3 PC14, 4 PC15, 5 PF0, 6 PF1, 7 NRST, 8 PC0, 9 PC1, 10 PC2, 11 PC3, 12 VSSA, 13 VDDA, 14 PA0, 15 PA1, 16 PA2, 17 PA3, 18 PF4, 19 VDD, 20 PA4, 21 PA5, 22 PA6, 23 PA7, 24 PC4, 25 PC5, 26 PB0, 27 PB1, 28 PB2, 29 PB10, 30 PB11, 31 VSS, 32 VDD, 33 PB12, 34 PB13, 35 PB14, 36 PB15, 37 PC6, 38 PC7, 39 PC8, 40 PC9, 41 PA8, 42 PA9, 43 PA10, 44 PA11, 45 PA12, 46 PA13, 47 VSS, 48 VDD, 49 PA14, 50 PA15, 51 PC10, 52 PC11, 53 PC12, 54 PD2, 55 PB3, 56 PB4, 57 PB5, 58 PB6, 59 PB7, 60 BOOT0, 61 PB8, 62 PB9, 63 VSS, 64 VDD

## STM32F302R_D-E_Tx
designator *  value STM32F302R_D-E_Tx  Reference: U
STMicroelectronics Arm Cortex-M4 MCU, 384-512KB flash, 64KB RAM, 72 MHz, 2.0-3.6V, 51 GPIO, LQFP64; ki_keywords: Arm Cortex-M4 STM32F3 STM32F302; ki_fp_filters: LQFP*10x10mm*P0.5mm*; Footprint: Package_QFP:LQFP-64_10x10mm_P0.5mm; Datasheet: https://www.st.com/resource/en/datasheet/stm32f302rd.pdf; Description_: STMicroelectronics Arm Cortex-M4 MCU, 384-512KB flash, 64KB RAM, 72 MHz, 2.0-3.6V, 51 GPIO, LQFP64
pins: 1 VBAT, 2 PC13, 3 PC14, 4 PC15, 5 PF0, 6 PF1, 7 NRST, 8 PC0, 9 PC1, 10 PC2, 11 PC3, 12 VSSA, 13 VDDA, 14 PA0, 15 PA1, 16 PA2, 17 PA3, 18 VSS, 19 VDD, 20 PA4, 21 PA5, 22 PA6, 23 PA7, 24 PC4, 25 PC5, 26 PB0, 27 PB1, 28 PB2, 29 PB10, 30 PB11, 31 VSS, 32 VDD, 33 PB12, 34 PB13, 35 PB14, 36 PB15, 37 PC6, 38 PC7, 39 PC8, 40 PC9, 41 PA8, 42 PA9, 43 PA10, 44 PA11, 45 PA12, 46 PA13, 47 VSS, 48 VDD, 49 PA14, 50 PA15, 51 PC10, 52 PC11, 53 PC12, 54 PD2, 55 PB3, 56 PB4, 57 PB5, 58 PB6, 59 PB7, 60 BOOT0, 61 PB8, 62 PB9, 63 VSS, 64 VDD

## STM32F302RBTx
designator *  value STM32F302RBTx  Reference: U
STMicroelectronics Arm Cortex-M4 MCU, 128KB flash, 32KB RAM, 72 MHz, 2.0-3.6V, 52 GPIO, LQFP64; ki_keywords: Arm Cortex-M4 STM32F3 STM32F302; ki_fp_filters: LQFP*10x10mm*P0.5mm*; Footprint: Package_QFP:LQFP-64_10x10mm_P0.5mm; Datasheet: https://www.st.com/resource/en/datasheet/stm32f302rb.pdf; Description_: STMicroelectronics Arm Cortex-M4 MCU, 128KB flash, 32KB RAM, 72 MHz, 2.0-3.6V, 52 GPIO, LQFP64
pins: 1 VBAT, 2 PC13, 3 PC14, 4 PC15, 5 PF0, 6 PF1, 7 NRST, 8 PC0, 9 PC1, 10 PC2, 11 PC3, 12 VSSA, 13 VDDA, 14 PA0, 15 PA1, 16 PA2, 17 PA3, 18 PF4, 19 VDD, 20 PA4, 21 PA5, 22 PA6, 23 PA7, 24 PC4, 25 PC5, 26 PB0, 27 PB1, 28 PB2, 29 PB10, 30 PB11, 31 VSS, 32 VDD, 33 PB12, 34 PB13, 35 PB14, 36 PB15, 37 PC6, 38 PC7, 39 PC8, 40 PC9, 41 PA8, 42 PA9, 43 PA10, 44 PA11, 45 PA12, 46 PA13, 47 VSS, 48 VDD, 49 PA14, 50 PA15, 51 PC10, 52 PC11, 53 PC12, 54 PD2, 55 PB3, 56 PB4, 57 PB5, 58 PB6, 59 PB7, 60 BOOT0, 61 PB8, 62 PB9, 63 VSS, 64 VDD

## STM32F302RCTx
designator *  value STM32F302RCTx  Reference: U
STMicroelectronics Arm Cortex-M4 MCU, 256KB flash, 40KB RAM, 72 MHz, 2.0-3.6V, 52 GPIO, LQFP64; ki_keywords: Arm Cortex-M4 STM32F3 STM32F302; ki_fp_filters: LQFP*10x10mm*P0.5mm*; Footprint: Package_QFP:LQFP-64_10x10mm_P0.5mm; Datasheet: https://www.st.com/resource/en/datasheet/stm32f302rc.pdf; Description_: STMicroelectronics Arm Cortex-M4 MCU, 256KB flash, 40KB RAM, 72 MHz, 2.0-3.6V, 52 GPIO, LQFP64
pins: 1 VBAT, 2 PC13, 3 PC14, 4 PC15, 5 PF0, 6 PF1, 7 NRST, 8 PC0, 9 PC1, 10 PC2, 11 PC3, 12 VSSA, 13 VDDA, 14 PA0, 15 PA1, 16 PA2, 17 PA3, 18 PF4, 19 VDD, 20 PA4, 21 PA5, 22 PA6, 23 PA7, 24 PC4, 25 PC5, 26 PB0, 27 PB1, 28 PB2, 29 PB10, 30 PB11, 31 VSS, 32 VDD, 33 PB12, 34 PB13, 35 PB14, 36 PB15, 37 PC6, 38 PC7, 39 PC8, 40 PC9, 41 PA8, 42 PA9, 43 PA10, 44 PA11, 45 PA12, 46 PA13, 47 VSS, 48 VDD, 49 PA14, 50 PA15, 51 PC10, 52 PC11, 53 PC12, 54 PD2, 55 PB3, 56 PB4, 57 PB5, 58 PB6, 59 PB7, 60 BOOT0, 61 PB8, 62 PB9, 63 VSS, 64 VDD

## STM32F302RDTx
designator *  value STM32F302RDTx  Reference: U
STMicroelectronics Arm Cortex-M4 MCU, 384KB flash, 64KB RAM, 72 MHz, 2.0-3.6V, 51 GPIO, LQFP64; ki_keywords: Arm Cortex-M4 STM32F3 STM32F302; ki_fp_filters: LQFP*10x10mm*P0.5mm*; Footprint: Package_QFP:LQFP-64_10x10mm_P0.5mm; Datasheet: https://www.st.com/resource/en/datasheet/stm32f302rd.pdf; Description_: STMicroelectronics Arm Cortex-M4 MCU, 384KB flash, 64KB RAM, 72 MHz, 2.0-3.6V, 51 GPIO, LQFP64
pins: 1 VBAT, 2 PC13, 3 PC14, 4 PC15, 5 PF0, 6 PF1, 7 NRST, 8 PC0, 9 PC1, 10 PC2, 11 PC3, 12 VSSA, 13 VDDA, 14 PA0, 15 PA1, 16 PA2, 17 PA3, 18 VSS, 19 VDD, 20 PA4, 21 PA5, 22 PA6, 23 PA7, 24 PC4, 25 PC5, 26 PB0, 27 PB1, 28 PB2, 29 PB10, 30 PB11, 31 VSS, 32 VDD, 33 PB12, 34 PB13, 35 PB14, 36 PB15, 37 PC6, 38 PC7, 39 PC8, 40 PC9, 41 PA8, 42 PA9, 43 PA10, 44 PA11, 45 PA12, 46 PA13, 47 VSS, 48 VDD, 49 PA14, 50 PA15, 51 PC10, 52 PC11, 53 PC12, 54 PD2, 55 PB3, 56 PB4, 57 PB5, 58 PB6, 59 PB7, 60 BOOT0, 61 PB8, 62 PB9, 63 VSS, 64 VDD

## STM32F302RETx
designator *  value STM32F302RETx  Reference: U
STMicroelectronics Arm Cortex-M4 MCU, 512KB flash, 64KB RAM, 72 MHz, 2.0-3.6V, 51 GPIO, LQFP64; ki_keywords: Arm Cortex-M4 STM32F3 STM32F302; ki_fp_filters: LQFP*10x10mm*P0.5mm*; Footprint: Package_QFP:LQFP-64_10x10mm_P0.5mm; Datasheet: https://www.st.com/resource/en/datasheet/stm32f302re.pdf; Description_: STMicroelectronics Arm Cortex-M4 MCU, 512KB flash, 64KB RAM, 72 MHz, 2.0-3.6V, 51 GPIO, LQFP64
pins: 1 VBAT, 2 PC13, 3 PC14, 4 PC15, 5 PF0, 6 PF1, 7 NRST, 8 PC0, 9 PC1, 10 PC2, 11 PC3, 12 VSSA, 13 VDDA, 14 PA0, 15 PA1, 16 PA2, 17 PA3, 18 VSS, 19 VDD, 20 PA4, 21 PA5, 22 PA6, 23 PA7, 24 PC4, 25 PC5, 26 PB0, 27 PB1, 28 PB2, 29 PB10, 30 PB11, 31 VSS, 32 VDD, 33 PB12, 34 PB13, 35 PB14, 36 PB15, 37 PC6, 38 PC7, 39 PC8, 40 PC9, 41 PA8, 42 PA9, 43 PA10, 44 PA11, 45 PA12, 46 PA13, 47 VSS, 48 VDD, 49 PA14, 50 PA15, 51 PC10, 52 PC11, 53 PC12, 54 PD2, 55 PB3, 56 PB4, 57 PB5, 58 PB6, 59 PB7, 60 BOOT0, 61 PB8, 62 PB9, 63 VSS, 64 VDD

## STM32F302V_B-C_Tx
designator *  value STM32F302V_B-C_Tx  Reference: U
STMicroelectronics Arm Cortex-M4 MCU, 128-256KB flash, 32-40KB RAM, 72 MHz, 2.0-3.6V, 87 GPIO, LQFP100; ki_keywords: Arm Cortex-M4 STM32F3 STM32F302; ki_fp_filters: LQFP*14x14mm*P0.5mm*; Footprint: Package_QFP:LQFP-100_14x14mm_P0.5mm; Datasheet: https://www.st.com/resource/en/datasheet/stm32f302vb.pdf; Description_: STMicroelectronics Arm Cortex-M4 MCU, 128-256KB flash, 32-40KB RAM, 72 MHz, 2.0-3.6V, 87 GPIO, LQFP100
pins: 1 PE2, 2 PE3, 3 PE4, 4 PE5, 5 PE6, 6 VBAT, 7 PC13, 8 PC14, 9 PC15, 10 PF9, 11 PF10, 12 PF0, 13 PF1, 14 NRST, 15 PC0, 16 PC1, 17 PC2, 18 PC3, 19 PF2, 20 VSSA, 21 VREF+, 22 VDDA, 23 PA0, 24 PA1, 25 PA2, 26 PA3, 27 PF4, 28 VDD, 29 PA4, 30 PA5, 31 PA6, 32 PA7, 33 PC4, 34 PC5, 35 PB0, 36 PB1, 37 PB2, 38 PE7, 39 PE8, 40 PE9, 41 PE10, 42 PE11, 43 PE12, 44 PE13, 45 PE14, 46 PE15, 47 PB10, 48 PB11, 49 VSS, 50 VDD, 51 PB12, 52 PB13, 53 PB14, 54 PB15, 55 PD8, 56 PD9, 57 PD10, 58 PD11, 59 PD12, 60 PD13, 61 PD14, 62 PD15, 63 PC6, 64 PC7, 65 PC8, 66 PC9, 67 PA8, 68 PA9, 69 PA10, 70 PA11, 71 PA12, 72 PA13, 73 PF6, 74 VSS, 75 VDD, 76 PA14, 77 PA15, 78 PC10, 79 PC11, 80 PC12, 81 PD0, 82 PD1, 83 PD2, 84 PD3, 85 PD4, 86 PD5, 87 PD6, 88 PD7, 89 PB3, 90 PB4, 91 PB5, 92 PB6, 93 PB7, 94 BOOT0, 95 PB8, 96 PB9, 97 PE0, 98 PE1, 99 VSS, 100 VDD

## STM32F302V_D-E_Hx
designator *  value STM32F302V_D-E_Hx  Reference: U
STMicroelectronics Arm Cortex-M4 MCU, 384-512KB flash, 64KB RAM, 72 MHz, 2.0-3.6V, 86 GPIO, UFBGA100; ki_keywords: Arm Cortex-M4 STM32F3 STM32F302; ki_fp_filters: UFBGA*7x7mm*Layout12x12*P0.5mm*; Footprint: Package_BGA:UFBGA-100_7x7mm_Layout12x12_P0.5mm; Datasheet: https://www.st.com/resource/en/datasheet/stm32f302vd.pdf; Description_: STMicroelectronics Arm Cortex-M4 MCU, 384-512KB flash, 64KB RAM, 72 MHz, 2.0-3.6V, 86 GPIO, UFBGA100
pins: A1 PE3, A2 PE1, A3 PB8, A4 BOOT0, A5 PD7, A6 PD5, A7 PB4, A8 PB3, A9 PA15, A10 PA14, A11 PA13, A12 PA12, B1 PE4, B2 PE2, B3 PB9, B4 PB7, B5 PB6, B6 PD6, B7 PD4, B8 PD3, B9 PD1, B10 PC12, B11 PC10, B12 PA11, C1 PC13, C2 PE5, C3 PE0, C4 VDD, C5 PB5, C8 PD2, C9 PD0, C10 PC11, C11 PF6, C12 PA10, D1 PC14, D2 PE6, D3 VSS, D10 PA9, D11 PA8, D12 PC9, E1 PC15, E2 VBAT, E3 VSS, E10 PC8, E11 PC7, E12 PC6, F1 PF0, F2 PF9, F11 VSS, F12 VSS, G1 PF1, G2 PF10, G11 VDD, G12 VDD, H1 PC0, H2 NRST, H3 VDD, H10 PD15, H11 PD14, H12 PD13, J1 PF2, J2 PC1, J3 PC2, J10 PD12, J11 PD11, J12 PD10, K1 VSSA, K2 PC3, K3 PA2, K4 PA5, K5 PC4, K8 PD9, K9 PD8, K10 PB15, K11 PB14, K12 PB13, L1 VDDA, L2 PA0, L3 PA3, L4 PA6, L5 PC5, L6 PB2, L7 PE8, L8 PE10, L9 PE12, L10 PB10, L11 PB11, L12 PB12, M1 VREF+, M2 PA1, M3 PA4, M4 PA7, M5 PB0, M6 PB1, M7 PE7, M8 PE9, M9 PE11, M10 PE13, M11 PE14, M12 PE15

## STM32F302V_D-E_Tx
designator *  value STM32F302V_D-E_Tx  Reference: U
STMicroelectronics Arm Cortex-M4 MCU, 384-512KB flash, 64KB RAM, 72 MHz, 2.0-3.6V, 86 GPIO, LQFP100; ki_keywords: Arm Cortex-M4 STM32F3 STM32F302; ki_fp_filters: LQFP*14x14mm*P0.5mm*; Footprint: Package_QFP:LQFP-100_14x14mm_P0.5mm; Datasheet: https://www.st.com/resource/en/datasheet/stm32f302vd.pdf; Description_: STMicroelectronics Arm Cortex-M4 MCU, 384-512KB flash, 64KB RAM, 72 MHz, 2.0-3.6V, 86 GPIO, LQFP100
pins: 1 PE2, 2 PE3, 3 PE4, 4 PE5, 5 PE6, 6 VBAT, 7 PC13, 8 PC14, 9 PC15, 10 PF9, 11 PF10, 12 PF0, 13 PF1, 14 NRST, 15 PC0, 16 PC1, 17 PC2, 18 PC3, 19 PF2, 20 VSSA, 21 VREF+, 22 VDDA, 23 PA0, 24 PA1, 25 PA2, 26 PA3, 27 VSS, 28 VDD, 29 PA4, 30 PA5, 31 PA6, 32 PA7, 33 PC4, 34 PC5, 35 PB0, 36 PB1, 37 PB2, 38 PE7, 39 PE8, 40 PE9, 41 PE10, 42 PE11, 43 PE12, 44 PE13, 45 PE14, 46 PE15, 47 PB10, 48 PB11, 49 VSS, 50 VDD, 51 PB12, 52 PB13, 53 PB14, 54 PB15, 55 PD8, 56 PD9, 57 PD10, 58 PD11, 59 PD12, 60 PD13, 61 PD14, 62 PD15, 63 PC6, 64 PC7, 65 PC8, 66 PC9, 67 PA8, 68 PA9, 69 PA10, 70 PA11, 71 PA12, 72 PA13, 73 PF6, 74 VSS, 75 VDD, 76 PA14, 77 PA15, 78 PC10, 79 PC11, 80 PC12, 81 PD0, 82 PD1, 83 PD2, 84 PD3, 85 PD4, 86 PD5, 87 PD6, 88 PD7, 89 PB3, 90 PB4, 91 PB5, 92 PB6, 93 PB7, 94 BOOT0, 95 PB8, 96 PB9, 97 PE0, 98 PE1, 99 VSS, 100 VDD

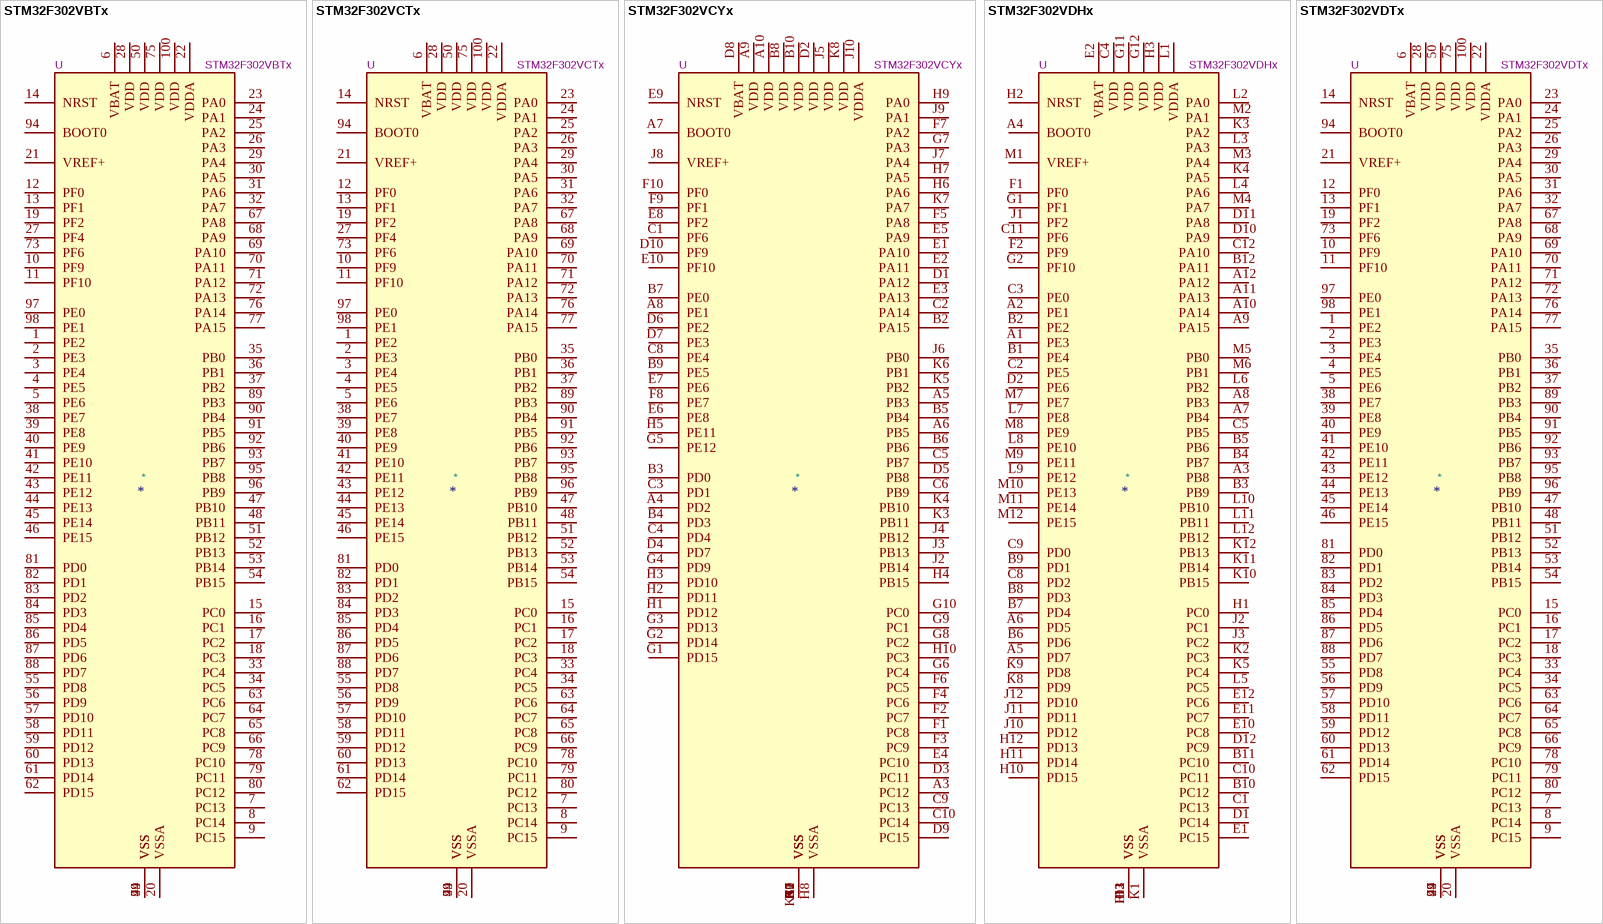
[diagram p3: symbols STM32F302VBTx to STM32F302VDTx]

## STM32F302VBTx
designator *  value STM32F302VBTx  Reference: U
STMicroelectronics Arm Cortex-M4 MCU, 128KB flash, 32KB RAM, 72 MHz, 2.0-3.6V, 87 GPIO, LQFP100; ki_keywords: Arm Cortex-M4 STM32F3 STM32F302; ki_fp_filters: LQFP*14x14mm*P0.5mm*; Footprint: Package_QFP:LQFP-100_14x14mm_P0.5mm; Datasheet: https://www.st.com/resource/en/datasheet/stm32f302vb.pdf; Description_: STMicroelectronics Arm Cortex-M4 MCU, 128KB flash, 32KB RAM, 72 MHz, 2.0-3.6V, 87 GPIO, LQFP100
pins: 1 PE2, 2 PE3, 3 PE4, 4 PE5, 5 PE6, 6 VBAT, 7 PC13, 8 PC14, 9 PC15, 10 PF9, 11 PF10, 12 PF0, 13 PF1, 14 NRST, 15 PC0, 16 PC1, 17 PC2, 18 PC3, 19 PF2, 20 VSSA, 21 VREF+, 22 VDDA, 23 PA0, 24 PA1, 25 PA2, 26 PA3, 27 PF4, 28 VDD, 29 PA4, 30 PA5, 31 PA6, 32 PA7, 33 PC4, 34 PC5, 35 PB0, 36 PB1, 37 PB2, 38 PE7, 39 PE8, 40 PE9, 41 PE10, 42 PE11, 43 PE12, 44 PE13, 45 PE14, 46 PE15, 47 PB10, 48 PB11, 49 VSS, 50 VDD, 51 PB12, 52 PB13, 53 PB14, 54 PB15, 55 PD8, 56 PD9, 57 PD10, 58 PD11, 59 PD12, 60 PD13, 61 PD14, 62 PD15, 63 PC6, 64 PC7, 65 PC8, 66 PC9, 67 PA8, 68 PA9, 69 PA10, 70 PA11, 71 PA12, 72 PA13, 73 PF6, 74 VSS, 75 VDD, 76 PA14, 77 PA15, 78 PC10, 79 PC11, 80 PC12, 81 PD0, 82 PD1, 83 PD2, 84 PD3, 85 PD4, 86 PD5, 87 PD6, 88 PD7, 89 PB3, 90 PB4, 91 PB5, 92 PB6, 93 PB7, 94 BOOT0, 95 PB8, 96 PB9, 97 PE0, 98 PE1, 99 VSS, 100 VDD

## STM32F302VCTx
designator *  value STM32F302VCTx  Reference: U
STMicroelectronics Arm Cortex-M4 MCU, 256KB flash, 40KB RAM, 72 MHz, 2.0-3.6V, 87 GPIO, LQFP100; ki_keywords: Arm Cortex-M4 STM32F3 STM32F302; ki_fp_filters: LQFP*14x14mm*P0.5mm*; Footprint: Package_QFP:LQFP-100_14x14mm_P0.5mm; Datasheet: https://www.st.com/resource/en/datasheet/stm32f302vc.pdf; Description_: STMicroelectronics Arm Cortex-M4 MCU, 256KB flash, 40KB RAM, 72 MHz, 2.0-3.6V, 87 GPIO, LQFP100
pins: 1 PE2, 2 PE3, 3 PE4, 4 PE5, 5 PE6, 6 VBAT, 7 PC13, 8 PC14, 9 PC15, 10 PF9, 11 PF10, 12 PF0, 13 PF1, 14 NRST, 15 PC0, 16 PC1, 17 PC2, 18 PC3, 19 PF2, 20 VSSA, 21 VREF+, 22 VDDA, 23 PA0, 24 PA1, 25 PA2, 26 PA3, 27 PF4, 28 VDD, 29 PA4, 30 PA5, 31 PA6, 32 PA7, 33 PC4, 34 PC5, 35 PB0, 36 PB1, 37 PB2, 38 PE7, 39 PE8, 40 PE9, 41 PE10, 42 PE11, 43 PE12, 44 PE13, 45 PE14, 46 PE15, 47 PB10, 48 PB11, 49 VSS, 50 VDD, 51 PB12, 52 PB13, 53 PB14, 54 PB15, 55 PD8, 56 PD9, 57 PD10, 58 PD11, 59 PD12, 60 PD13, 61 PD14, 62 PD15, 63 PC6, 64 PC7, 65 PC8, 66 PC9, 67 PA8, 68 PA9, 69 PA10, 70 PA11, 71 PA12, 72 PA13, 73 PF6, 74 VSS, 75 VDD, 76 PA14, 77 PA15, 78 PC10, 79 PC11, 80 PC12, 81 PD0, 82 PD1, 83 PD2, 84 PD3, 85 PD4, 86 PD5, 87 PD6, 88 PD7, 89 PB3, 90 PB4, 91 PB5, 92 PB6, 93 PB7, 94 BOOT0, 95 PB8, 96 PB9, 97 PE0, 98 PE1, 99 VSS, 100 VDD

## STM32F302VCYx
designator *  value STM32F302VCYx  Reference: U
STMicroelectronics Arm Cortex-M4 MCU, 256KB flash, 40KB RAM, 72 MHz, 2.0-3.6V, 78 GPIO, WLCSP100; ki_keywords: Arm Cortex-M4 STM32F3 STM32F302; ki_fp_filters: ST*WLCSP*Die422*; Footprint: Package_CSP:ST_WLCSP-100_Die422; Datasheet: https://www.st.com/resource/en/datasheet/stm32f302vc.pdf; Description_: STMicroelectronics Arm Cortex-M4 MCU, 256KB flash, 40KB RAM, 72 MHz, 2.0-3.6V, 78 GPIO, WLCSP100
pins: A1 VSS, A2 VSS, A3 PC12, A4 PD2, A5 PB3, A6 PB5, A7 BOOT0, A8 PE1, A9 VDD, A10 VDD, B1 VSS, B2 PA15, B3 PD0, B4 PD3, B5 PB4, B6 PB6, B7 PE0, B8 VDD, B9 PE5, B10 VDD, C1 PF6, C2 PA14, C3 PD1, C4 PD4, C5 PB7, C6 PB9, C7 VSS, C8 PE4, C9 PC13, C10 PC14, D1 PA12, D2 VDD, D3 PC11, D4 PD7, D5 PB8, D6 PE2, D7 PE3, D8 VBAT, D9 PC15, D10 PF9, E1 PA10, E2 PA11, E3 PA13, E4 PC10, E5 PA9, E6 PE8, E7 PE6, E8 PF2, E9 NRST, E10 PF10, F1 PC8, F2 PC7, F3 PC9, F4 PC6, F5 PA8, F6 PC5, F7 PA2, F8 PE7, F9 PF1, F10 PF0, G1 PD15, G2 PD14, G3 PD13, G4 PD9, G5 PE12, G6 PC4, G7 PA3, G8 PC2, G9 PC1, G10 PC0, H1 PD12, H2 PD11, H3 PD10, H4 PB15, H5 PE11, H6 PA6, H7 PA5, H8 VSSA, H9 PA0, H10 PC3, J1 VSS, J2 PB14, J3 PB13, J4 PB12, J5 VDD, J6 PB0, J7 PA4, J8 VREF+, J9 PA1, J10 VDDA, K1 VSS, K2 VSS, K3 PB11, K4 PB10, K5 PB2, K6 PB1, K7 PA7, K8 VDD, K9 VSS, K10 VSS

## STM32F302VDHx
designator *  value STM32F302VDHx  Reference: U
STMicroelectronics Arm Cortex-M4 MCU, 384KB flash, 64KB RAM, 72 MHz, 2.0-3.6V, 86 GPIO, UFBGA100; ki_keywords: Arm Cortex-M4 STM32F3 STM32F302; ki_fp_filters: UFBGA*7x7mm*Layout12x12*P0.5mm*; Footprint: Package_BGA:UFBGA-100_7x7mm_Layout12x12_P0.5mm; Datasheet: https://www.st.com/resource/en/datasheet/stm32f302vd.pdf; Description_: STMicroelectronics Arm Cortex-M4 MCU, 384KB flash, 64KB RAM, 72 MHz, 2.0-3.6V, 86 GPIO, UFBGA100
pins: A1 PE3, A2 PE1, A3 PB8, A4 BOOT0, A5 PD7, A6 PD5, A7 PB4, A8 PB3, A9 PA15, A10 PA14, A11 PA13, A12 PA12, B1 PE4, B2 PE2, B3 PB9, B4 PB7, B5 PB6, B6 PD6, B7 PD4, B8 PD3, B9 PD1, B10 PC12, B11 PC10, B12 PA11, C1 PC13, C2 PE5, C3 PE0, C4 VDD, C5 PB5, C8 PD2, C9 PD0, C10 PC11, C11 PF6, C12 PA10, D1 PC14, D2 PE6, D3 VSS, D10 PA9, D11 PA8, D12 PC9, E1 PC15, E2 VBAT, E3 VSS, E10 PC8, E11 PC7, E12 PC6, F1 PF0, F2 PF9, F11 VSS, F12 VSS, G1 PF1, G2 PF10, G11 VDD, G12 VDD, H1 PC0, H2 NRST, H3 VDD, H10 PD15, H11 PD14, H12 PD13, J1 PF2, J2 PC1, J3 PC2, J10 PD12, J11 PD11, J12 PD10, K1 VSSA, K2 PC3, K3 PA2, K4 PA5, K5 PC4, K8 PD9, K9 PD8, K10 PB15, K11 PB14, K12 PB13, L1 VDDA, L2 PA0, L3 PA3, L4 PA6, L5 PC5, L6 PB2, L7 PE8, L8 PE10, L9 PE12, L10 PB10, L11 PB11, L12 PB12, M1 VREF+, M2 PA1, M3 PA4, M4 PA7, M5 PB0, M6 PB1, M7 PE7, M8 PE9, M9 PE11, M10 PE13, M11 PE14, M12 PE15

## STM32F302VDTx
designator *  value STM32F302VDTx  Reference: U
STMicroelectronics Arm Cortex-M4 MCU, 384KB flash, 64KB RAM, 72 MHz, 2.0-3.6V, 86 GPIO, LQFP100; ki_keywords: Arm Cortex-M4 STM32F3 STM32F302; ki_fp_filters: LQFP*14x14mm*P0.5mm*; Footprint: Package_QFP:LQFP-100_14x14mm_P0.5mm; Datasheet: https://www.st.com/resource/en/datasheet/stm32f302vd.pdf; Description_: STMicroelectronics Arm Cortex-M4 MCU, 384KB flash, 64KB RAM, 72 MHz, 2.0-3.6V, 86 GPIO, LQFP100
pins: 1 PE2, 2 PE3, 3 PE4, 4 PE5, 5 PE6, 6 VBAT, 7 PC13, 8 PC14, 9 PC15, 10 PF9, 11 PF10, 12 PF0, 13 PF1, 14 NRST, 15 PC0, 16 PC1, 17 PC2, 18 PC3, 19 PF2, 20 VSSA, 21 VREF+, 22 VDDA, 23 PA0, 24 PA1, 25 PA2, 26 PA3, 27 VSS, 28 VDD, 29 PA4, 30 PA5, 31 PA6, 32 PA7, 33 PC4, 34 PC5, 35 PB0, 36 PB1, 37 PB2, 38 PE7, 39 PE8, 40 PE9, 41 PE10, 42 PE11, 43 PE12, 44 PE13, 45 PE14, 46 PE15, 47 PB10, 48 PB11, 49 VSS, 50 VDD, 51 PB12, 52 PB13, 53 PB14, 54 PB15, 55 PD8, 56 PD9, 57 PD10, 58 PD11, 59 PD12, 60 PD13, 61 PD14, 62 PD15, 63 PC6, 64 PC7, 65 PC8, 66 PC9, 67 PA8, 68 PA9, 69 PA10, 70 PA11, 71 PA12, 72 PA13, 73 PF6, 74 VSS, 75 VDD, 76 PA14, 77 PA15, 78 PC10, 79 PC11, 80 PC12, 81 PD0, 82 PD1, 83 PD2, 84 PD3, 85 PD4, 86 PD5, 87 PD6, 88 PD7, 89 PB3, 90 PB4, 91 PB5, 92 PB6, 93 PB7, 94 BOOT0, 95 PB8, 96 PB9, 97 PE0, 98 PE1, 99 VSS, 100 VDD

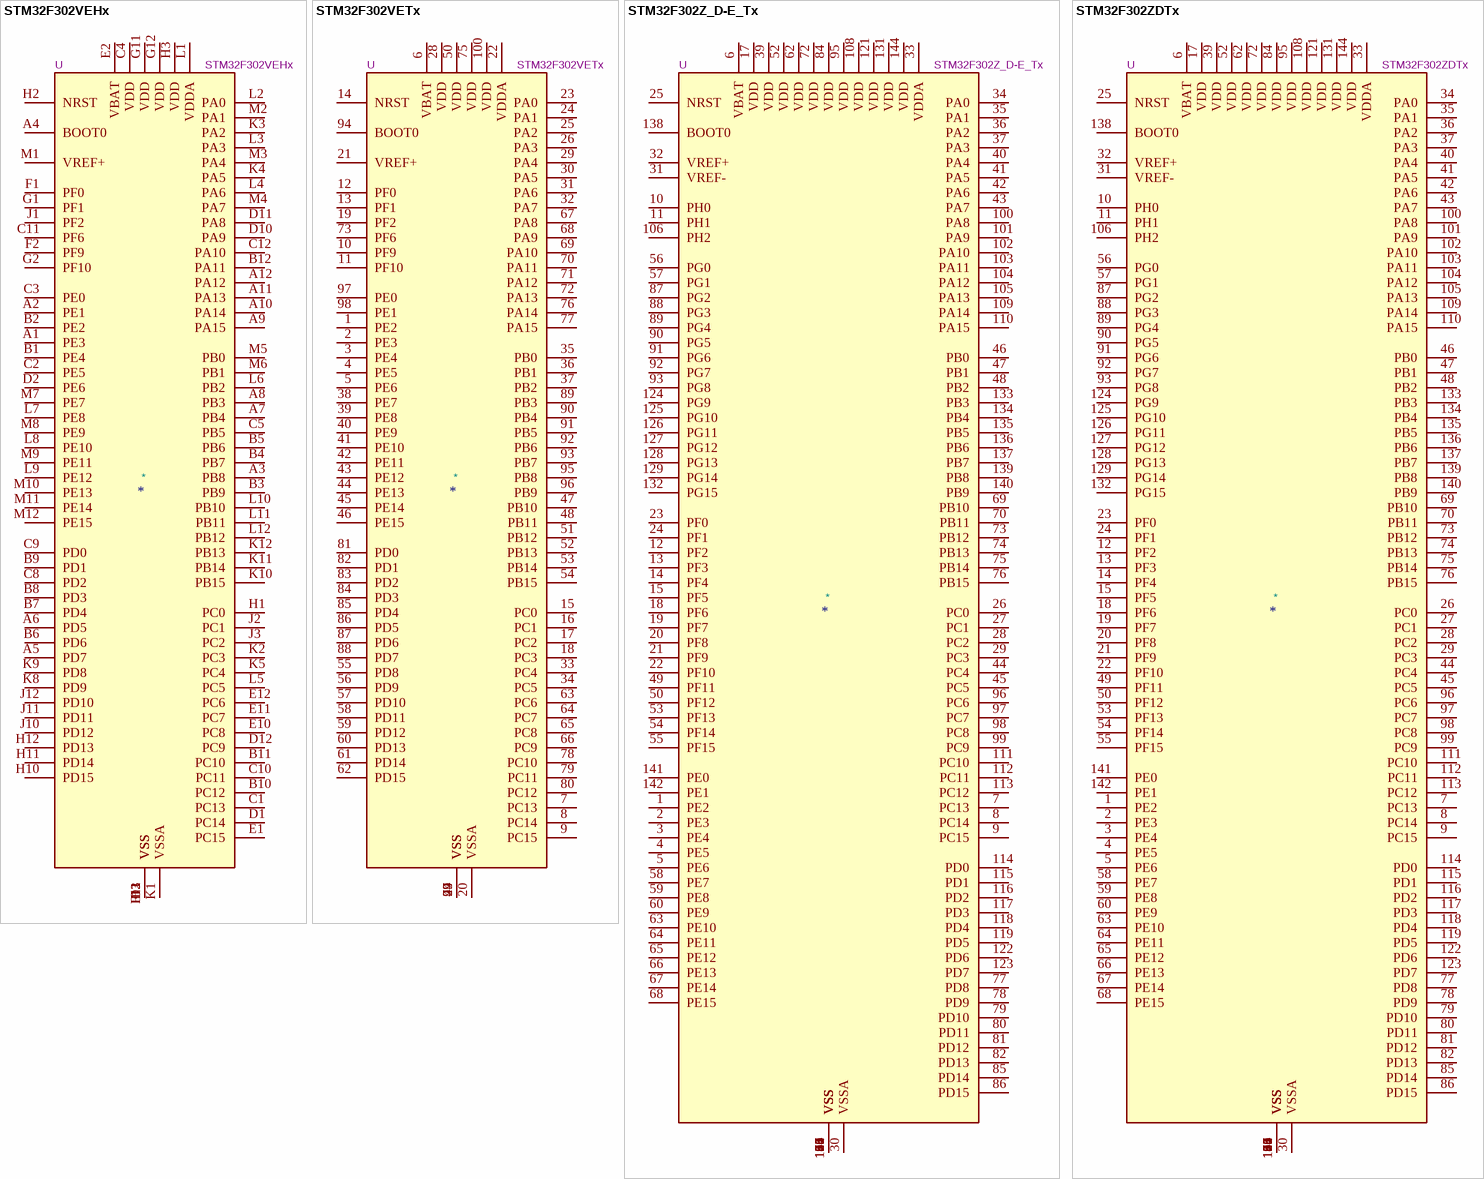
[diagram p4: symbols STM32F302VEHx to STM32F302ZDTx]

## STM32F302VEHx
designator *  value STM32F302VEHx  Reference: U
STMicroelectronics Arm Cortex-M4 MCU, 512KB flash, 64KB RAM, 72 MHz, 2.0-3.6V, 86 GPIO, UFBGA100; ki_keywords: Arm Cortex-M4 STM32F3 STM32F302; ki_fp_filters: UFBGA*7x7mm*Layout12x12*P0.5mm*; Footprint: Package_BGA:UFBGA-100_7x7mm_Layout12x12_P0.5mm; Datasheet: https://www.st.com/resource/en/datasheet/stm32f302ve.pdf; Description_: STMicroelectronics Arm Cortex-M4 MCU, 512KB flash, 64KB RAM, 72 MHz, 2.0-3.6V, 86 GPIO, UFBGA100
pins: A1 PE3, A2 PE1, A3 PB8, A4 BOOT0, A5 PD7, A6 PD5, A7 PB4, A8 PB3, A9 PA15, A10 PA14, A11 PA13, A12 PA12, B1 PE4, B2 PE2, B3 PB9, B4 PB7, B5 PB6, B6 PD6, B7 PD4, B8 PD3, B9 PD1, B10 PC12, B11 PC10, B12 PA11, C1 PC13, C2 PE5, C3 PE0, C4 VDD, C5 PB5, C8 PD2, C9 PD0, C10 PC11, C11 PF6, C12 PA10, D1 PC14, D2 PE6, D3 VSS, D10 PA9, D11 PA8, D12 PC9, E1 PC15, E2 VBAT, E3 VSS, E10 PC8, E11 PC7, E12 PC6, F1 PF0, F2 PF9, F11 VSS, F12 VSS, G1 PF1, G2 PF10, G11 VDD, G12 VDD, H1 PC0, H2 NRST, H3 VDD, H10 PD15, H11 PD14, H12 PD13, J1 PF2, J2 PC1, J3 PC2, J10 PD12, J11 PD11, J12 PD10, K1 VSSA, K2 PC3, K3 PA2, K4 PA5, K5 PC4, K8 PD9, K9 PD8, K10 PB15, K11 PB14, K12 PB13, L1 VDDA, L2 PA0, L3 PA3, L4 PA6, L5 PC5, L6 PB2, L7 PE8, L8 PE10, L9 PE12, L10 PB10, L11 PB11, L12 PB12, M1 VREF+, M2 PA1, M3 PA4, M4 PA7, M5 PB0, M6 PB1, M7 PE7, M8 PE9, M9 PE11, M10 PE13, M11 PE14, M12 PE15

## STM32F302VETx
designator *  value STM32F302VETx  Reference: U
STMicroelectronics Arm Cortex-M4 MCU, 512KB flash, 64KB RAM, 72 MHz, 2.0-3.6V, 86 GPIO, LQFP100; ki_keywords: Arm Cortex-M4 STM32F3 STM32F302; ki_fp_filters: LQFP*14x14mm*P0.5mm*; Footprint: Package_QFP:LQFP-100_14x14mm_P0.5mm; Datasheet: https://www.st.com/resource/en/datasheet/stm32f302ve.pdf; Description_: STMicroelectronics Arm Cortex-M4 MCU, 512KB flash, 64KB RAM, 72 MHz, 2.0-3.6V, 86 GPIO, LQFP100
pins: 1 PE2, 2 PE3, 3 PE4, 4 PE5, 5 PE6, 6 VBAT, 7 PC13, 8 PC14, 9 PC15, 10 PF9, 11 PF10, 12 PF0, 13 PF1, 14 NRST, 15 PC0, 16 PC1, 17 PC2, 18 PC3, 19 PF2, 20 VSSA, 21 VREF+, 22 VDDA, 23 PA0, 24 PA1, 25 PA2, 26 PA3, 27 VSS, 28 VDD, 29 PA4, 30 PA5, 31 PA6, 32 PA7, 33 PC4, 34 PC5, 35 PB0, 36 PB1, 37 PB2, 38 PE7, 39 PE8, 40 PE9, 41 PE10, 42 PE11, 43 PE12, 44 PE13, 45 PE14, 46 PE15, 47 PB10, 48 PB11, 49 VSS, 50 VDD, 51 PB12, 52 PB13, 53 PB14, 54 PB15, 55 PD8, 56 PD9, 57 PD10, 58 PD11, 59 PD12, 60 PD13, 61 PD14, 62 PD15, 63 PC6, 64 PC7, 65 PC8, 66 PC9, 67 PA8, 68 PA9, 69 PA10, 70 PA11, 71 PA12, 72 PA13, 73 PF6, 74 VSS, 75 VDD, 76 PA14, 77 PA15, 78 PC10, 79 PC11, 80 PC12, 81 PD0, 82 PD1, 83 PD2, 84 PD3, 85 PD4, 86 PD5, 87 PD6, 88 PD7, 89 PB3, 90 PB4, 91 PB5, 92 PB6, 93 PB7, 94 BOOT0, 95 PB8, 96 PB9, 97 PE0, 98 PE1, 99 VSS, 100 VDD

## STM32F302Z_D-E_Tx
designator *  value STM32F302Z_D-E_Tx  Reference: U
STMicroelectronics Arm Cortex-M4 MCU, 384-512KB flash, 64KB RAM, 72 MHz, 2.0-3.6V, 115 GPIO, LQFP144; ki_keywords: Arm Cortex-M4 STM32F3 STM32F302; ki_fp_filters: LQFP*20x20mm*P0.5mm*; Footprint: Package_QFP:LQFP-144_20x20mm_P0.5mm; Datasheet: https://www.st.com/resource/en/datasheet/stm32f302zd.pdf; Description_: STMicroelectronics Arm Cortex-M4 MCU, 384-512KB flash, 64KB RAM, 72 MHz, 2.0-3.6V, 115 GPIO, LQFP144
pins: 1 PE2, 2 PE3, 3 PE4, 4 PE5, 5 PE6, 6 VBAT, 7 PC13, 8 PC14, 9 PC15, 10 PH0, 11 PH1, 12 PF2, 13 PF3, 14 PF4, 15 PF5, 16 VSS, 17 VDD, 18 PF6, 19 PF7, 20 PF8, 21 PF9, 22 PF10, 23 PF0, 24 PF1, 25 NRST, 26 PC0, 27 PC1, 28 PC2, 29 PC3, 30 VSSA, 31 VREF-, 32 VREF+, 33 VDDA, 34 PA0, 35 PA1, 36 PA2, 37 PA3, 38 VSS, 39 VDD, 40 PA4, 41 PA5, 42 PA6, 43 PA7, 44 PC4, 45 PC5, 46 PB0, 47 PB1, 48 PB2, 49 PF11, 50 PF12, 51 VSS, 52 VDD, 53 PF13, 54 PF14, 55 PF15, 56 PG0, 57 PG1, 58 PE7, 59 PE8, 60 PE9, 61 VSS, 62 VDD, 63 PE10, 64 PE11, 65 PE12, 66 PE13, 67 PE14, 68 PE15, 69 PB10, 70 PB11, 71 VSS, 72 VDD, 73 PB12, 74 PB13, 75 PB14, 76 PB15, 77 PD8, 78 PD9, 79 PD10, 80 PD11, 81 PD12, 82 PD13, 83 VSS, 84 VDD, 85 PD14, 86 PD15, 87 PG2, 88 PG3, 89 PG4, 90 PG5, 91 PG6, 92 PG7, 93 PG8, 94 VSS, 95 VDD, 96 PC6, 97 PC7, 98 PC8, 99 PC9, 100 PA8, 101 PA9, 102 PA10, 103 PA11, 104 PA12, 105 PA13, 106 PH2, 107 VSS, 108 VDD, 109 PA14, 110 PA15, 111 PC10, 112 PC11, 113 PC12, 114 PD0, 115 PD1, 116 PD2, 117 PD3, 118 PD4, 119 PD5, 120 VSS, 121 VDD, 122 PD6, 123 PD7, 124 PG9, 125 PG10, 126 PG11, 127 PG12, 128 PG13, 129 PG14, 130 VSS, 131 VDD, 132 PG15, 133 PB3, 134 PB4, 135 PB5, 136 PB6, 137 PB7, 138 BOOT0, 139 PB8, 140 PB9, 141 PE0, 142 PE1, 143 VSS, 144 VDD

## STM32F302ZDTx
designator *  value STM32F302ZDTx  Reference: U
STMicroelectronics Arm Cortex-M4 MCU, 384KB flash, 64KB RAM, 72 MHz, 2.0-3.6V, 115 GPIO, LQFP144; ki_keywords: Arm Cortex-M4 STM32F3 STM32F302; ki_fp_filters: LQFP*20x20mm*P0.5mm*; Footprint: Package_QFP:LQFP-144_20x20mm_P0.5mm; Datasheet: https://www.st.com/resource/en/datasheet/stm32f302zd.pdf; Description_: STMicroelectronics Arm Cortex-M4 MCU, 384KB flash, 64KB RAM, 72 MHz, 2.0-3.6V, 115 GPIO, LQFP144
pins: 1 PE2, 2 PE3, 3 PE4, 4 PE5, 5 PE6, 6 VBAT, 7 PC13, 8 PC14, 9 PC15, 10 PH0, 11 PH1, 12 PF2, 13 PF3, 14 PF4, 15 PF5, 16 VSS, 17 VDD, 18 PF6, 19 PF7, 20 PF8, 21 PF9, 22 PF10, 23 PF0, 24 PF1, 25 NRST, 26 PC0, 27 PC1, 28 PC2, 29 PC3, 30 VSSA, 31 VREF-, 32 VREF+, 33 VDDA, 34 PA0, 35 PA1, 36 PA2, 37 PA3, 38 VSS, 39 VDD, 40 PA4, 41 PA5, 42 PA6, 43 PA7, 44 PC4, 45 PC5, 46 PB0, 47 PB1, 48 PB2, 49 PF11, 50 PF12, 51 VSS, 52 VDD, 53 PF13, 54 PF14, 55 PF15, 56 PG0, 57 PG1, 58 PE7, 59 PE8, 60 PE9, 61 VSS, 62 VDD, 63 PE10, 64 PE11, 65 PE12, 66 PE13, 67 PE14, 68 PE15, 69 PB10, 70 PB11, 71 VSS, 72 VDD, 73 PB12, 74 PB13, 75 PB14, 76 PB15, 77 PD8, 78 PD9, 79 PD10, 80 PD11, 81 PD12, 82 PD13, 83 VSS, 84 VDD, 85 PD14, 86 PD15, 87 PG2, 88 PG3, 89 PG4, 90 PG5, 91 PG6, 92 PG7, 93 PG8, 94 VSS, 95 VDD, 96 PC6, 97 PC7, 98 PC8, 99 PC9, 100 PA8, 101 PA9, 102 PA10, 103 PA11, 104 PA12, 105 PA13, 106 PH2, 107 VSS, 108 VDD, 109 PA14, 110 PA15, 111 PC10, 112 PC11, 113 PC12, 114 PD0, 115 PD1, 116 PD2, 117 PD3, 118 PD4, 119 PD5, 120 VSS, 121 VDD, 122 PD6, 123 PD7, 124 PG9, 125 PG10, 126 PG11, 127 PG12, 128 PG13, 129 PG14, 130 VSS, 131 VDD, 132 PG15, 133 PB3, 134 PB4, 135 PB5, 136 PB6, 137 PB7, 138 BOOT0, 139 PB8, 140 PB9, 141 PE0, 142 PE1, 143 VSS, 144 VDD

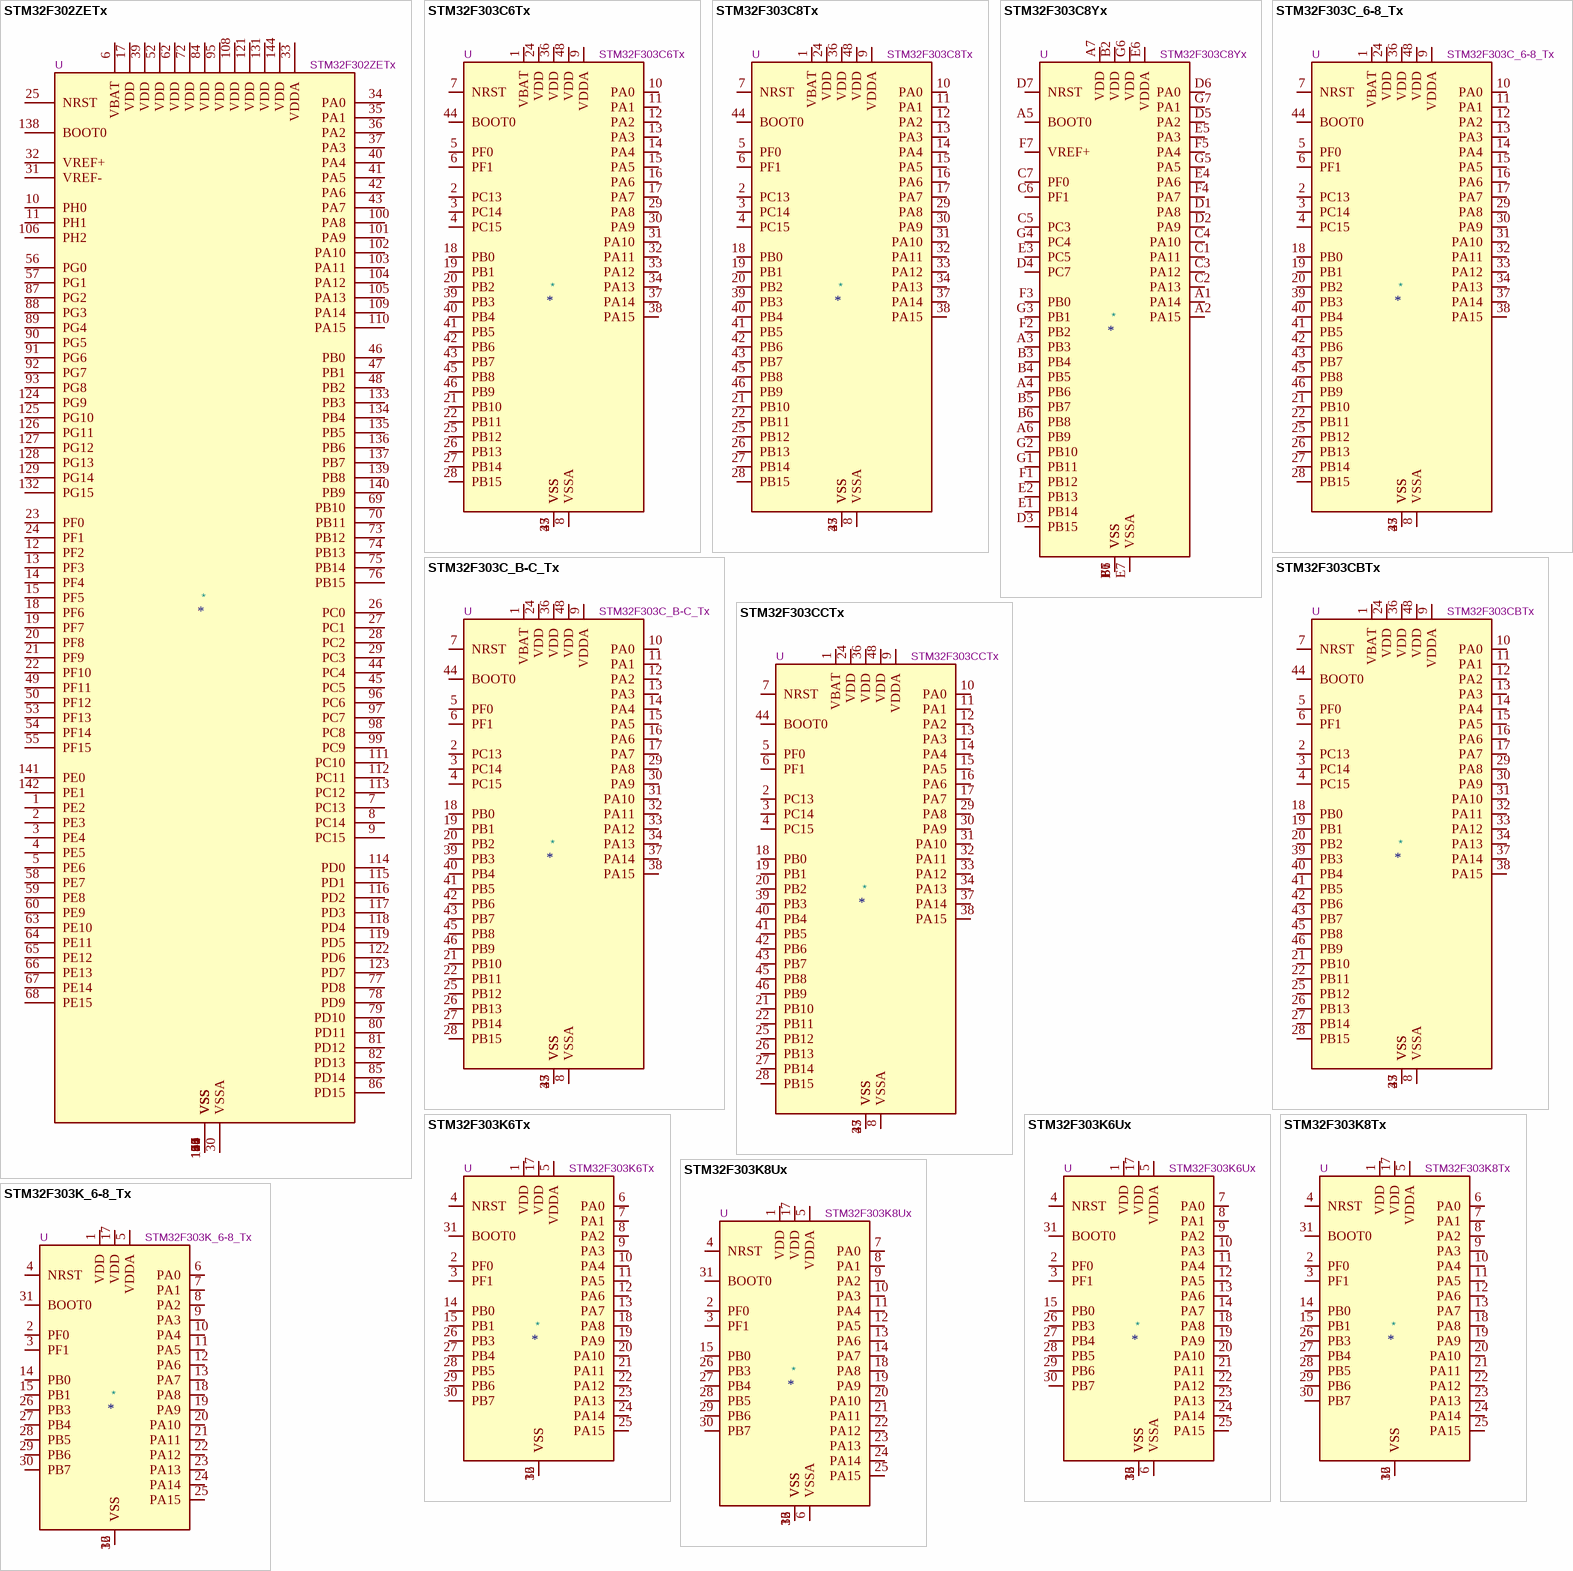
[diagram p5: symbols STM32F302ZETx to STM32F303K_6-8_Tx]

## STM32F302ZETx
designator *  value STM32F302ZETx  Reference: U
STMicroelectronics Arm Cortex-M4 MCU, 512KB flash, 64KB RAM, 72 MHz, 2.0-3.6V, 115 GPIO, LQFP144; ki_keywords: Arm Cortex-M4 STM32F3 STM32F302; ki_fp_filters: LQFP*20x20mm*P0.5mm*; Footprint: Package_QFP:LQFP-144_20x20mm_P0.5mm; Datasheet: https://www.st.com/resource/en/datasheet/stm32f302ze.pdf; Description_: STMicroelectronics Arm Cortex-M4 MCU, 512KB flash, 64KB RAM, 72 MHz, 2.0-3.6V, 115 GPIO, LQFP144
pins: 1 PE2, 2 PE3, 3 PE4, 4 PE5, 5 PE6, 6 VBAT, 7 PC13, 8 PC14, 9 PC15, 10 PH0, 11 PH1, 12 PF2, 13 PF3, 14 PF4, 15 PF5, 16 VSS, 17 VDD, 18 PF6, 19 PF7, 20 PF8, 21 PF9, 22 PF10, 23 PF0, 24 PF1, 25 NRST, 26 PC0, 27 PC1, 28 PC2, 29 PC3, 30 VSSA, 31 VREF-, 32 VREF+, 33 VDDA, 34 PA0, 35 PA1, 36 PA2, 37 PA3, 38 VSS, 39 VDD, 40 PA4, 41 PA5, 42 PA6, 43 PA7, 44 PC4, 45 PC5, 46 PB0, 47 PB1, 48 PB2, 49 PF11, 50 PF12, 51 VSS, 52 VDD, 53 PF13, 54 PF14, 55 PF15, 56 PG0, 57 PG1, 58 PE7, 59 PE8, 60 PE9, 61 VSS, 62 VDD, 63 PE10, 64 PE11, 65 PE12, 66 PE13, 67 PE14, 68 PE15, 69 PB10, 70 PB11, 71 VSS, 72 VDD, 73 PB12, 74 PB13, 75 PB14, 76 PB15, 77 PD8, 78 PD9, 79 PD10, 80 PD11, 81 PD12, 82 PD13, 83 VSS, 84 VDD, 85 PD14, 86 PD15, 87 PG2, 88 PG3, 89 PG4, 90 PG5, 91 PG6, 92 PG7, 93 PG8, 94 VSS, 95 VDD, 96 PC6, 97 PC7, 98 PC8, 99 PC9, 100 PA8, 101 PA9, 102 PA10, 103 PA11, 104 PA12, 105 PA13, 106 PH2, 107 VSS, 108 VDD, 109 PA14, 110 PA15, 111 PC10, 112 PC11, 113 PC12, 114 PD0, 115 PD1, 116 PD2, 117 PD3, 118 PD4, 119 PD5, 120 VSS, 121 VDD, 122 PD6, 123 PD7, 124 PG9, 125 PG10, 126 PG11, 127 PG12, 128 PG13, 129 PG14, 130 VSS, 131 VDD, 132 PG15, 133 PB3, 134 PB4, 135 PB5, 136 PB6, 137 PB7, 138 BOOT0, 139 PB8, 140 PB9, 141 PE0, 142 PE1, 143 VSS, 144 VDD

## STM32F303C6Tx
designator *  value STM32F303C6Tx  Reference: U
STMicroelectronics Arm Cortex-M4 MCU, 32KB flash, 16KB RAM, 72 MHz, 2.0-3.6V, 37 GPIO, LQFP48; ki_keywords: Arm Cortex-M4 STM32F3 STM32F303; ki_fp_filters: LQFP*7x7mm*P0.5mm*; Footprint: Package_QFP:LQFP-48_7x7mm_P0.5mm; Datasheet: https://www.st.com/resource/en/datasheet/stm32f303c6.pdf; Description_: STMicroelectronics Arm Cortex-M4 MCU, 32KB flash, 16KB RAM, 72 MHz, 2.0-3.6V, 37 GPIO, LQFP48
pins: 1 VBAT, 2 PC13, 3 PC14, 4 PC15, 5 PF0, 6 PF1, 7 NRST, 8 VSSA, 9 VDDA, 10 PA0, 11 PA1, 12 PA2, 13 PA3, 14 PA4, 15 PA5, 16 PA6, 17 PA7, 18 PB0, 19 PB1, 20 PB2, 21 PB10, 22 PB11, 23 VSS, 24 VDD, 25 PB12, 26 PB13, 27 PB14, 28 PB15, 29 PA8, 30 PA9, 31 PA10, 32 PA11, 33 PA12, 34 PA13, 35 VSS, 36 VDD, 37 PA14, 38 PA15, 39 PB3, 40 PB4, 41 PB5, 42 PB6, 43 PB7, 44 BOOT0, 45 PB8, 46 PB9, 47 VSS, 48 VDD

## STM32F303C8Tx
designator *  value STM32F303C8Tx  Reference: U
STMicroelectronics Arm Cortex-M4 MCU, 64KB flash, 16KB RAM, 72 MHz, 2.0-3.6V, 37 GPIO, LQFP48; ki_keywords: Arm Cortex-M4 STM32F3 STM32F303; ki_fp_filters: LQFP*7x7mm*P0.5mm*; Footprint: Package_QFP:LQFP-48_7x7mm_P0.5mm; Datasheet: https://www.st.com/resource/en/datasheet/stm32f303c8.pdf; Description_: STMicroelectronics Arm Cortex-M4 MCU, 64KB flash, 16KB RAM, 72 MHz, 2.0-3.6V, 37 GPIO, LQFP48
pins: 1 VBAT, 2 PC13, 3 PC14, 4 PC15, 5 PF0, 6 PF1, 7 NRST, 8 VSSA, 9 VDDA, 10 PA0, 11 PA1, 12 PA2, 13 PA3, 14 PA4, 15 PA5, 16 PA6, 17 PA7, 18 PB0, 19 PB1, 20 PB2, 21 PB10, 22 PB11, 23 VSS, 24 VDD, 25 PB12, 26 PB13, 27 PB14, 28 PB15, 29 PA8, 30 PA9, 31 PA10, 32 PA11, 33 PA12, 34 PA13, 35 VSS, 36 VDD, 37 PA14, 38 PA15, 39 PB3, 40 PB4, 41 PB5, 42 PB6, 43 PB7, 44 BOOT0, 45 PB8, 46 PB9, 47 VSS, 48 VDD